# Altium integrated library Lattice ispXPGA.IntLib: 128 symbols (part 14 of 40)
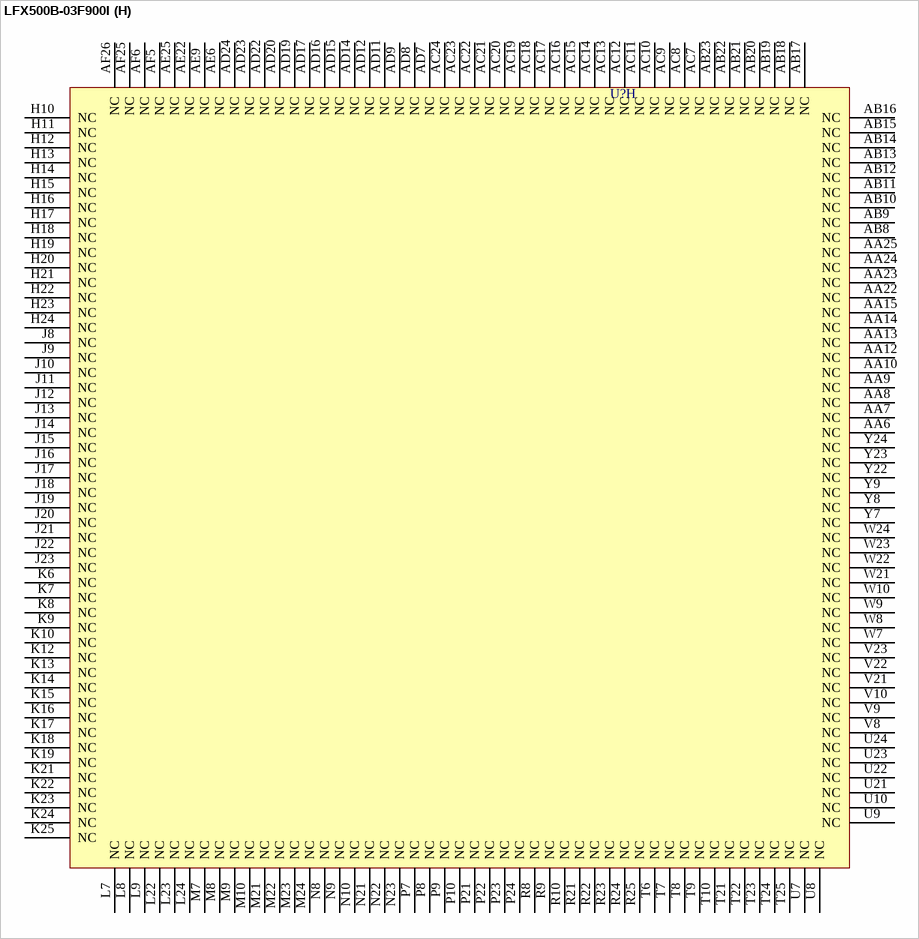
[diagram p412: symbol LFX500B-03F900I]

## LFX500B-03F900I
designator U?
LFX500 Non-Volatile Infinitely-Reconfigurable: 2.5/3.3V FPGA, 336 User I/Os, 900-Ball fpBGA, Speed Grade 3, Industrial Grade; Note: All GND pins must be electrically connected at the board level.; DoNotConnect: NC pins to any active signals, VCC or GND.; Published: 17-Dec-2003; LatestRevisionDate: 13-Apr-2006; LatestRevisionNote: IPC-7351 Footprint Added.; DatasheetVersion: xpga_07, Sep-2003; PackageVersion: pkg_32, Aug-2005; PackageReference: fpBGA900; Publisher: Altium Limited; PackageDescription: 900-Ball Fine Pitch Ball Grid Array (fpBGA900); Code_IPC: BGA100P30X30-900; ComponentLink1Description: Manufacturer Link; ComponentLink1URL: http://www.latticesemi.com/products/fpga/xpga/index.cfm; ComponentLink2Description: Datasheet; ComponentLink2URL: http://www.latticesemi.com/account/_download.cfm?AMID=5010; ComponentLink3Description: Lattice Login; ComponentLink3URL: http://www.latticesemi.com/account/login.cfm
footprint fpBGA900 (BGA, 900-Leads, Body 31x31mm, Pitch 1mm)
3D model LFX500-fpBGA900 (900-Ball Fine Pitch Ball Grid Array (fpBGA900))
part A pins: AA1 BK1_IO23, HSI2A_SINN/32N (io), AA2 BK1_IO22, HSI2A_SINP/32P (io), AD3 BK1_IO32/37P/HSI3 (io), AD4 BK1_IO33/37N (io), AD5 BK1_IO25/33N (io), AD6 BK1_IO24, VREF1/33P (io), AE1 BK1_IO35/38N (io), AE2 BK1_IO34/38P (io), AE3 BK1_IO28/35P (io), AE4 BK1_IO29/35N (io), AE5 BK1_IO36/39P (io), AF1 BK1_IO27, HSI2B_SOUTN/34N (io), AF2 BK1_IO26, HSI2B_SOUTP/34P (io), AF3 BK1_IO40/41P (io), AF4 BK1_IO37/39N (io), AG1 BK1_IO30, HSI2B_SINP/36P (io), AG2 BK1_IO31, HSI2B_SINN/36N (io), AG3 BK1_IO41/41N (io), AH1 BK1_IO38/40P (io), AH2 BK1_IO39/40N (io), D1 BK0_IO3, HSI0A_SOUTN/1N/HSI0 (io), D2 BK0_IO2, HSI0A_SOUTP/1P/HSI0 (io), E1 BK0_IO7, HSI0A_SINN/3N/HSI0 (io), E2 BK0_IO6, HSI0A_SINP/3P/HSI0 (io), E4 BK0_IO0/0P (io), F3 BK0_IO5/2N/HSI0 (io), F4 BK0_IO4/2P/HSI0 (io), F5 BK0_IO1/0N (io), G5 BK0_IO8/4P/HSI0 (io), G6 BK0_IO9, VREF0/4N/HSI0 (io), K1 BK0_IO10, HSI0B_SOUTP/5P/HSI0 (io), K2 BK0_IO11, HSI0B_SOUTN/5N/HSI0 (io), K4 BK0_IO13/6N/HSI0 (io), K5 BK0_IO12/6P/HSI0 (io), L1 BK0_IO14, HSI0B_SINP/7P/HSI0 (io), L2 BK0_IO15, HSI0B_SINN/7N/HSI0 (io), L3 BK0_IO20/10P/HSI1 (io), L4 BK0_IO21/10N/HSI1 (io), L5 BK0_IO17/8N/HSI0 (io), L6 BK0_IO16/8P/HSI0 (io), M1 BK0_IO18, HSI1A_SOUTP/9P/HSI1 (io), M2 BK0_IO19, HSI1A_SOUTN/9N/HSI1 (io), M3 BK0_IO25/12N/HSI1 (io), M4 BK0_IO24/12P/HSI1 (io), M5 BK0_IO23, HSI1A_SINN/11N/HSI1 (io), M6 BK0_IO22, HSI1A_SINP/11P/HSI1 (io), N1 BK0_IO26, HSI1B_SOUTP/13P/HSI1 (io), N2 BK0_IO27, HSI1B_SOUTN/13N/HSI1 (io), N3 BK0_IO32/16P/HSI1 (io), N4 BK0_IO33/16N/HSI1 (io), N6 BK0_IO29/14N/HSI1 (io), N7 BK0_IO28/14P/HSI1 (io), P1 BK0_IO30, HSI1B_SINP/15P/HSI1 (io), P2 BK0_IO31, HSI1B_SINN/15N/HSI1 (io), P3 BK0_IO36/18P (io), P4 BK0_IO39/19N (io), P5 BK0_IO35, PLL_RST1/17N (io), P6 BK0_IO38, PLL_RST0/19P (io), R1 BK0_IO40, CLK_OUT0/20P (io), R2 BK0_IO41, CLK_OUT1/20N (io), R6 BK0_IO37, PLL_FBK1/18N (io), R7 BK0_IO34, PLL_FBK0/17P (io), T1 BK1_IO1, CLK_OUT3/21N (io), T2 BK1_IO0, CLK_OUT2/21P (io), U1 BK1_IO3, SS_CLKOUT0N/22N (io), U2 BK1_IO2, SS_CLKOUT0P/22P (io), U3 BK1_IO4, PLL_FBK2/23P (io), U4 BK1_IO5, PLL_FBK3/23N (io), U5 BK1_IO12/27P (io), U6 BK1_IO13/27N (io), V1 BK1_IO10, SS_CLKIN0P/26P (io), V2 BK1_IO11, SS_CLKIN0N/26N (io), V3 BK1_IO7/24N (io), V4 BK1_IO6/24P (io), V6 BK1_IO20, PLL_RST2/31P (io), V7 BK1_IO21, PLL_RST3/31N (io), W1 BK1_IO8/25P (io), W2 BK1_IO9/25N (io), W3 BK1_IO14/28P (io), W4 BK1_IO15/28N (io), W5 BK1_IO16/29P (io), W6 BK1_IO17/29N (io), Y1 BK1_IO19, HSI2A_SOUTN/30N (io), Y2 BK1_IO18, HSI2A_SOUTP/30P (io)
part B pins: AD13 BK2_IO24/54P (io), AD18 BK3_IO17/71N (io), AE7 BK2_IO8/46P (io), AE8 BK2_IO21, VREF2/52N (io), AE13 BK2_IO25/54N (io), AE14 BK2_IO30/57P (io), AE15 BK2_IO36/60P (io), AE16 BK3_IO5/65N (io), AE17 BK3_IO11/68N (io), AE18 BK3_IO16/71P (io), AE23 BK3_IO27/76N (io), AE24 BK3_IO33/79N (io), AF7 BK2_IO9/46N (io), AF8 BK2_IO20/52P (io), AF9 BK2_IO18/51P (io), AF14 BK2_IO31/57N (io), AF15 BK2_IO37/60N (io), AF16 BK3_IO4/65P (io), AF17 BK3_IO10/68P (io), AF23 BK3_IO26/76P (io), AF24 BK3_IO32/79P (io), AG5 BK2_IO0/42P (io), AG6 BK2_IO4/44P (io), AG7 BK2_IO10/47P (io), AG8 BK2_IO14/49P (io), AG9 BK2_IO19/51N (io), AG13 BK2_IO28/56P (io), AG14 BK2_IO32/58P (io), AG15 BK2_IO38/61P (io), AG16 BK3_IO3/64N (io), AG17 BK3_IO9/67N (io), AG18 BK3_IO13/69N (io), AG23 BK3_IO22/74P (io), AG24 BK3_IO20, VREF3/73P (io), AG25 BK3_IO37/81N (io), AG26 BK3_IO40/83P (io), AH5 BK2_IO1/42N (io), AH6 BK2_IO5/44N (io), AH7 BK2_IO11/47N (io), AH8 BK2_IO15/49N (io), AH13 BK2_IO29/56N (io), AH14 BK2_IO33/58N (io), AH15 BK2_IO39/61N (io), AH16 BK3_IO2/64P (io), AH17 BK3_IO8/67P (io), AH18 BK3_IO12/69P (io), AH23 BK3_IO23/74N (io), AH24 BK3_IO21/73N (io), AH25 BK3_IO36/81P (io), AH26 BK3_IO41/83N (io), AJ4 BK2_IO2/43P (io), AJ5 BK2_IO6/45P (io), AJ6 BK2_IO12/48P (io), AJ7 BK2_IO16/50P (io), AJ12 BK2_IO23/53N (io), AJ13 BK2_IO27/55N (io), AJ14 BK2_IO34/59P (io), AJ15 BK2_IO40/62P (io), AJ16 BK3_IO1/63N (io), AJ17 BK3_IO7/66N (io), AJ18 BK3_IO14/70P (io), AJ19 BK3_IO18/72P (io), AJ23 BK3_IO24/75P (io), AJ24 BK3_IO28/77P (io), AJ25 BK3_IO30/78P (io), AJ26 BK3_IO35/80N (io), AJ27 BK3_IO39/82N (io), AK4 BK2_IO3/43N (io), AK5 BK2_IO7/45N (io), AK6 BK2_IO13/48N (io), AK7 BK2_IO17/50N (io), AK12 BK2_IO22/53P (io), AK13 BK2_IO26/55P (io), AK14 BK2_IO35/59N (io), AK15 BK2_IO41/62N (io), AK16 BK3_IO0/63P (io), AK17 BK3_IO6/66P (io), AK18 BK3_IO15/70N (io), AK19 BK3_IO19/72N (io), AK23 BK3_IO25/75N (io), AK24 BK3_IO29/77N (io), AK25 BK3_IO31/78N (io), AK26 BK3_IO34/80P (io), AK27 BK3_IO38/82P (io)
part C pins: AA29 BK4_IO23, HSI3B_SOUTN/95N (io), AA30 BK4_IO22, HSI3B_SOUTP/95P (io), AB29 BK4_IO19, HSI3B_SINN/93N (io), AB30 BK4_IO18, HSI3B_SINP/93P (io), AC25 BK4_IO8/88P/HSI3 (io), AC26 BK4_IO9/88N/HSI3 (io), AD25 BK4_IO12/90P/HSI3 (io), AD26 BK4_IO13/90N/HSI3 (io), AD27 BK4_IO17, VREF4/92N/HSI3 (io), AD28 BK4_IO16/92P/HSI3 (io), AE26 BK4_IO3/85N/HSI3 (io), AE27 BK4_IO4/86P/HSI3 (io), AE28 BK4_IO5/86N/HSI3 (io), AF27 BK4_IO1/84N (io), AF28 BK4_IO2/85P/HSI3 (io), AF29 BK4_IO6/87P/HSI3 (io), AF30 BK4_IO7/87N/HSI3 (io), AG28 BK4_IO0/84P (io), AG29 BK4_IO14, HSI3A_SOUTP/91P/HSI3 (io), AG30 BK4_IO15, HSI3A_SOUTN/91N/HSI3 (io), AH29 BK4_IO11, HSI3A_SINN/89N/HSI3 (io), AH30 BK4_IO10, HSI3A_SINP/89P/HSI3 (io), C29 BK5_IO39, HSI5B_SOUTN/124N/HSI5 (io), C30 BK5_IO38, HSI5B_SOUTP/124P/HSI5 (io), D28 BK5_IO41/125N (io), D29 BK5_IO35, HSI5B_SINN/122N/HSI5 (io), D30 BK5_IO34, HSI5B_SINP/122P/HSI5 (io), E27 BK5_IO40/125P (io), F27 BK5_IO37/123N/HSI5 (io), F28 BK5_IO36/123P/HSI5 (io), H25 BK5_IO32, VREF5/121P/HSI5 (io), H26 BK5_IO33/121N/HSI5 (io), J29 BK5_IO31, HSI5A_SOUTN/120N/HSI5 (io), J30 BK5_IO30, HSI5A_SOUTP/120P/HSI5 (io), K26 BK5_IO29/119N/HSI5 (io), K27 BK5_IO28/119P/HSI5 (io), K29 BK5_IO23, HSI4B_SOUTN/116N/HSI4 (io), K30 BK5_IO22, HSI4B_SOUTP/116P/HSI4 (io), L25 BK5_IO27, HSI5A_SINN/118N/HSI5 (io), L26 BK5_IO26, HSI5A_SINP/118P/HSI5 (io), L27 BK5_IO25/117N/HSI5 (io), L28 BK5_IO24/117P/HSI5 (io), L29 BK5_IO19, HSI4B_SINN/114N/HSI4 (io), L30 BK5_IO18, HSI4B_SINP/114P/HSI4 (io), M25 BK5_IO21/115N/HSI4 (io), M26 BK5_IO20/115P/HSI4 (io), M27 BK5_IO17/113N/HSI4 (io), M28 BK5_IO16/113P/HSI4 (io), M29 BK5_IO14, HSI4A_SOUTP/112P/HSI4 (io), M30 BK5_IO15, HSI4A_SOUTN/112N/HSI4 (io), N24 BK5_IO13/111N/HSI4 (io), N25 BK5_IO12/111P/HSI4 (io), N27 BK5_IO8/109P/HSI4 (io), N28 BK5_IO9/109N/HSI4 (io), N29 BK5_IO10, HSI4A_SINP/110P/HSI4 (io), N30 BK5_IO11, HSI4A_SINN/110N/HSI4 (io), P25 BK5_IO3, PLL_RST7/106N (io), P26 BK5_IO6, PLL_RST6/108P (io), P27 BK5_IO2/106P (io), P28 BK5_IO5/107N (io), P29 BK5_IO7, PLL_FBK7/108N (io), P30 BK5_IO4, PLL_FBK6/107P (io), R29 BK5_IO0, CLK_OUT6/105P (io), R30 BK5_IO1, CLK_OUT7/105N (io), T29 BK4_IO41, CLK_OUT5/104N (io), T30 BK4_IO40, CLK_OUT4/104P (io), U25 BK4_IO28/98P (io), U26 BK4_IO29/98N (io), U27 BK4_IO37, PLL_FBK5/102N (io), U28 BK4_IO36, PLL_FBK4/102P (io), U29 BK4_IO38, SS_CLKOUT1P/103P (io), U30 BK4_IO39, SS_CLKOUT1N/103N (io), V24 BK4_IO26/97P (io), V25 BK4_IO27/97N (io), V27 BK4_IO20, PLL_RST4/94P (io), V28 BK4_IO21, PLL_RST5/94N (io), V29 BK4_IO30, SS_CLKIN1P/99P (io), V30 BK4_IO31, SS_CLKIN1N/99N (io), W27 BK4_IO24/96P (io), W28 BK4_IO25/96N (io), W29 BK4_IO34/101P (io), W30 BK4_IO35/101N (io), Y29 BK4_IO32/100P (io), Y30 BK4_IO33/100N (io)
part D pins: A4 BK7_IO41/167N (io), A5 BK7_IO34/164P (io), A6 BK7_IO21/157N (io), A7 BK7_IO24/159P (io), A12 BK7_IO18/156P (io), A13 BK7_IO15/154N (io), A14 BK7_IO6/150P (io), A15 BK7_IO0/147P (io), A16 BK6_IO41/146N (io), A17 BK6_IO31, DATA0/141N (io), A18 BK6_IO32/142P (io), A23 BK6_IO16/134P (io), A24 BK6_IO12/132P (io), A25 BK6_IO10/131P (io), A26 BK6_IO7/129N (io), A27 BK6_IO3/127N (io), B4 BK7_IO40/167P (io), B5 BK7_IO35/164N (io), B6 BK7_IO20, VREF7/157P (io), B7 BK7_IO25/159N (io), B12 BK7_IO19/156N (io), B13 BK7_IO14/154P (io), B14 BK7_IO7/150N (io), B15 BK7_IO1/147N (io), B16 BK6_IO40/146P (io), B17 BK6_IO30, DATA1/141P (io), B18 BK6_IO33/142N (io), B23 BK6_IO17/134N (io), B24 BK6_IO13/132N (io), B25 BK6_IO11/131N (io), B26 BK6_IO6/129P (io), B27 BK6_IO2/127P (io), C5 BK7_IO39/166N (io), C6 BK7_IO36/165P (io), C7 BK7_IO30/162P (io), C8 BK7_IO26/160P (io), C13 BK7_IO12/153P (io), C14 BK7_IO8/151P (io), C15 BK7_IO2/148P (io), C16 BK6_IO39/145N (io), C17 BK6_IO29/140N (io), C18 BK6_IO35/143N (io), C24 BK6_IO20/136P (io), C25 BK6_IO5, READ/128N (io), C26 BK6_IO1, CCLK/126N (io), D5 BK7_IO38/166P (io), D6 BK7_IO37/165N (io), D7 BK7_IO31/162N (io), D8 BK7_IO27/160N (io), D9 BK7_IO22/158P (io), D13 BK7_IO13/153N (io), D14 BK7_IO9/151N (io), D15 BK7_IO3/148N (io), D16 BK6_IO38/145P (io), D17 BK6_IO28/140P (io), D18 BK6_IO34/143P (io), D24 BK6_IO21, VREF6/136N (io), D25 BK6_IO4, CSb/128P (io), D26 BK6_IO0, INITb/126P (io), E7 BK7_IO32/163P (io), E8 BK7_IO28/161P (io), E9 BK7_IO23/158N (io), E14 BK7_IO10/152P (io), E15 BK7_IO4/149P (io), E16 BK6_IO37/144N (io), E17 BK6_IO27, DATA2/139N (io), E19 BK6_IO23, DATA4/137N (io), E20 BK6_IO19, DATA6/135N (io), E23 BK6_IO15/133N (io), E24 BK6_IO9/130N (io), F7 BK7_IO33/163N (io), F8 BK7_IO29/161N (io), F13 BK7_IO16/155P (io), F14 BK7_IO11/152N (io), F15 BK7_IO5/149N (io), F16 BK6_IO36/144P (io), F17 BK6_IO26, DATA3/139P (io), F18 BK6_IO25/138N (io), F19 BK6_IO22, DATA5/137P (io), F20 BK6_IO18, DATA7/135P (io), F23 BK6_IO14/133P (io), F24 BK6_IO8/130P (io), G13 BK7_IO17/155N (io), G18 BK6_IO24/138P (io)
part E pins: A3 TDO (out), A28 PROGRAMb (in), AH4 TCK (in), AH27 DXN (out), AJ3 TMS (in), AJ28 DXP (out), AK3 TOE (in), AK28 GSR (in), B28 DONE (io), C4 TDI (in), C27 CFG0 (in), R3 GCLK0/LVDS Pair0P (in), R4 GCLK1/LVDS Pair0N (in), R26 GCLK7/LVDS Pair3N (in), R27 GCLK6/LVDS Pair3P (in), T4 GCLK2/LVDS Pair1P (in), T5 GCLK3/LVDS Pair1N (in), T27 GCLK5/LVDS Pair2N (in), T28 GCLK4/LVDS Pair2P (in)
part F pins: A1 GND (power), A2 GND (power), A29 GND (power), A30 GND (power), AA3 VCCO1 (power), AA11 VCCO2 (power), AA20 VCCO3 (power), AA28 VCCO4 (power), AB3 GND (power), AB28 GND (power), AF13 VCCO2 (power), AF18 VCCO3 (power), AG4 GND (power), AG27 GND (power), AH3 GND (power), AH9 GND (power), AH10 VCCO2 (power), AH21 VCCO3 (power), AH22 GND (power), AH28 GND (power), AJ1 GND (power), AJ2 GND (power), AJ29 GND (power), AJ30 GND (power), AK1 GND (power), AK2 GND (power), AK29 GND (power), AK30 GND (power), B1 GND (power), B2 GND (power), B3 VCCJ (power), B29 GND (power), B30 GND (power), C3 GND (power), C9 GND (power), C10 VCCO7 (power), C21 VCCO6 (power), C22 GND (power), C28 GND (power), D4 GND (power), D27 GND (power), E13 VCCO7 (power), E18 VCCO6 (power), J3 GND (power), J28 GND (power), K3 VCCO0 (power), K11 VCCO7 (power), K20 VCCO6 (power), K28 VCCO5 (power), L10 VCCO0 (power), L11 VCC (power), L12 VCCO7 (power), L13 VCCO7 (power), L14 VCCO7 (power), L15 VCCO7 (power), L16 VCCO6 (power), L17 VCCO6 (power), L18 VCCO6 (power), L19 VCCO6 (power), L20 VCC (power), L21 VCCO5 (power), M11 VCCO0 (power), M12 VCC (power), M13 VCC (power), M14 VCC (power), M15 VCCO7 (power), M16 VCCO6 (power), M17 VCC (power), M18 VCC (power), M19 VCC (power), M20 VCCO5 (power), N5 VCCO0 (power), N11 VCCO0 (power), N12 VCC (power), N13 GND (power), N14 GND (power), N15 GND (power), N16 GND (power), N17 GND (power), N18 GND (power), N19 VCC (power), N20 VCCO5 (power), N26 VCCO5 (power), P11 VCCO0 (power), P12 VCC (power), P13 GND (power), P14 GND (power), P15 GND (power), P16 GND (power), P17 GND (power), P18 GND (power), P19 VCC (power), P20 VCCO5 (power), R5 VCCP0 (power), R11 VCCO0 (power), R12 VCCO0 (power), R13 GND (power), R14 GND (power), R15 GND (power), R16 GND (power), R17 GND (power), R18 GND (power), R19 VCCO5 (power), R20 VCCO5 (power), R28 GNDP1 (power), T3 GNDP0 (power), T11 VCCO1 (power), T12 VCCO1 (power), T13 GND (power), T14 GND (power), T15 GND (power), T16 GND (power), T17 GND (power), T18 GND (power), T19 VCCO4 (power), T20 VCCO4 (power), T26 VCCP1 (power), U11 VCCO1 (power), U12 VCC (power), U13 GND (power), U14 GND (power), U15 GND (power), U16 GND (power), U17 GND (power), U18 GND (power), U19 VCC (power), U20 VCCO4 (power), V5 VCCO1 (power), V11 VCCO1 (power), V12 VCC (power), V13 GND (power), V14 GND (power), V15 GND (power), V16 GND (power), V17 GND (power), V18 GND (power), V19 VCC (power), V20 VCCO4 (power), V26 VCCO4 (power), W11 VCCO1 (power), W12 VCC (power), W13 VCC (power), W14 VCC (power), W15 VCCO2 (power), W16 VCCO3 (power), W17 VCC (power), W18 VCC (power), W19 VCC (power), W20 VCCO4 (power), Y10 VCCO1 (power), Y11 VCC (power), Y12 VCCO2 (power), Y13 VCCO2 (power), Y14 VCCO2 (power), Y15 VCCO2 (power), Y16 VCCO3 (power), Y17 VCCO3 (power), Y18 VCCO3 (power), Y19 VCCO3 (power), Y20 VCC (power), Y21 VCCO4 (power)
part G pins: A8 NC, A9 NC, A10 NC, A11 NC, A19 NC, A20 NC, A21 NC, A22 NC, AA4 NC, AA5 NC, AA16 NC, AA17 NC, AA18 NC, AA19 NC, AA21 NC, AA26 NC, AA27 NC, AB1 NC, AB2 NC, AB4 NC, AB5 NC, AB6 NC, AB7 NC, AB24 NC, AB25 NC, AB26 NC, AB27 NC, AC1 NC, AC2 NC, AC3 NC, AC4 NC, AC5 NC, AC6 NC, AC27 NC, AC28 NC, AC29 NC, AC30 NC, AD1 NC, AD2 NC, AD10 NC, AD21 NC, AD29 NC, AD30 NC, AE10 NC, AE11 NC, AE12 NC, AE19 NC, AE20 NC, AE21 NC, AE29 NC, AE30 NC, AF10 NC, AF11 NC, AF12 NC, AF19 NC, AF20 NC, AF21 NC, AF22 NC, AG10 NC, AG11 NC, AG12 NC, AG19 NC, AG20 NC, AG21 NC, AG22 NC, AH11 NC, AH12 NC, AH19 NC, AH20 NC, AJ8 NC, AJ9 NC, AJ10 NC, AJ11 NC, AJ20 NC, AJ21 NC, AJ22 NC, AK8 NC, AK9 NC, AK10 NC, AK11 NC, AK20 NC, AK21 NC, AK22 NC, B8 NC, B9 NC, B10 NC, B11 NC, B19 NC, B20 NC, B21 NC, B22 NC, C1 NC, C2 NC, C11 NC, C12 NC, C19 NC, C20 NC, C23 NC, D3 NC, D10 NC, D11 NC, D12 NC, D19 NC, D20 NC, D21 NC, D22 NC, D23 NC, E3 NC, E5 NC, E6 NC, E10 NC, E11 NC, E12 NC, E21 NC, E22 NC, E25 NC, E26 NC, E28 NC, E29 NC, E30 NC, F1 NC, F2 NC, F6 NC, F9 NC, F10 NC, F11 NC, F12 NC, F21 NC, F22 NC, F25 NC, F26 NC, F29 NC, F30 NC, G1 NC, G2 NC, G3 NC, G4 NC, G7 NC, G8 NC, G9 NC, G10 NC, G11 NC, G12 NC, G14 NC, G15 NC, G16 NC, G17 NC, G19 NC, G20 NC, G21 NC, G22 NC, G23 NC, G24 NC, G25 NC, G26 NC, G27 NC, G28 NC, G29 NC, G30 NC, H1 NC, H2 NC, H3 NC, H4 NC, H5 NC, H6 NC, H7 NC, H8 NC, H9 NC, H27 NC, H28 NC, H29 NC, H30 NC, J1 NC, J2 NC, J4 NC, J5 NC, J6 NC, J7 NC, J24 NC, J25 NC, J26 NC, J27 NC, W25 NC, W26 NC, Y3 NC, Y4 NC, Y5 NC, Y6 NC, Y25 NC, Y26 NC, Y27 NC, Y28 NC
part H pins: AA6 NC, AA7 NC, AA8 NC, AA9 NC, AA10 NC, AA12 NC, AA13 NC, AA14 NC, AA15 NC, AA22 NC, AA23 NC, AA24 NC, AA25 NC, AB8 NC, AB9 NC, AB10 NC, AB11 NC, AB12 NC, AB13 NC, AB14 NC, AB15 NC, AB16 NC, AB17 NC, AB18 NC, AB19 NC, AB20 NC, AB21 NC, AB22 NC, AB23 NC, AC7 NC, AC8 NC, AC9 NC, AC10 NC, AC11 NC, AC12 NC, AC13 NC, AC14 NC, AC15 NC, AC16 NC, AC17 NC, AC18 NC, AC19 NC, AC20 NC, AC21 NC, AC22 NC, AC23 NC, AC24 NC, AD7 NC, AD8 NC, AD9 NC, AD11 NC, AD12 NC, AD14 NC, AD15 NC, AD16 NC, AD17 NC, AD19 NC, AD20 NC, AD22 NC, AD23 NC, AD24 NC, AE6 NC, AE9 NC, AE22 NC, AE25 NC, AF5 NC, AF6 NC, AF25 NC, AF26 NC, H10 NC, H11 NC, H12 NC, H13 NC, H14 NC, H15 NC, H16 NC, H17 NC, H18 NC, H19 NC, H20 NC, H21 NC, H22 NC, H23 NC, H24 NC, J8 NC, J9 NC, J10 NC, J11 NC, J12 NC, J13 NC, J14 NC, J15 NC, J16 NC, J17 NC, J18 NC, J19 NC, J20 NC, J21 NC, J22 NC, J23 NC, K6 NC, K7 NC, K8 NC, K9 NC, K10 NC, K12 NC, K13 NC, K14 NC, K15 NC, K16 NC, K17 NC, K18 NC, K19 NC, K21 NC, K22 NC, K23 NC, K24 NC, K25 NC, L7 NC, L8 NC, L9 NC, L22 NC, L23 NC, L24 NC, M7 NC, M8 NC, M9 NC, M10 NC, M21 NC, M22 NC, M23 NC, M24 NC, N8 NC, N9 NC, N10 NC, N21 NC, N22 NC, N23 NC, P7 NC, P8 NC, P9 NC, P10 NC, P21 NC, P22 NC, P23 NC, P24 NC, R8 NC, R9 NC, R10 NC, R21 NC, R22 NC, R23 NC, R24 NC, R25 NC, T6 NC, T7 NC, T8 NC, T9 NC, T10 NC, T21 NC, T22 NC, T23 NC, T24 NC, T25 NC, U7 NC, U8 NC, U9 NC, U10 NC, U21 NC, U22 NC, U23 NC, U24 NC, V8 NC, V9 NC, V10 NC, V21 NC, V22 NC, V23 NC, W7 NC, W8 NC, W9 NC, W10 NC, W21 NC, W22 NC, W23 NC, W24 NC, Y7 NC, Y8 NC, Y9 NC, Y22 NC, Y23 NC, Y24 NC
part A text: BANK 1; BANK 0
part B text: BANK 3; BANK 2
part C text: BANK 5; BANK 4
part D text: BANK 7; BANK 6

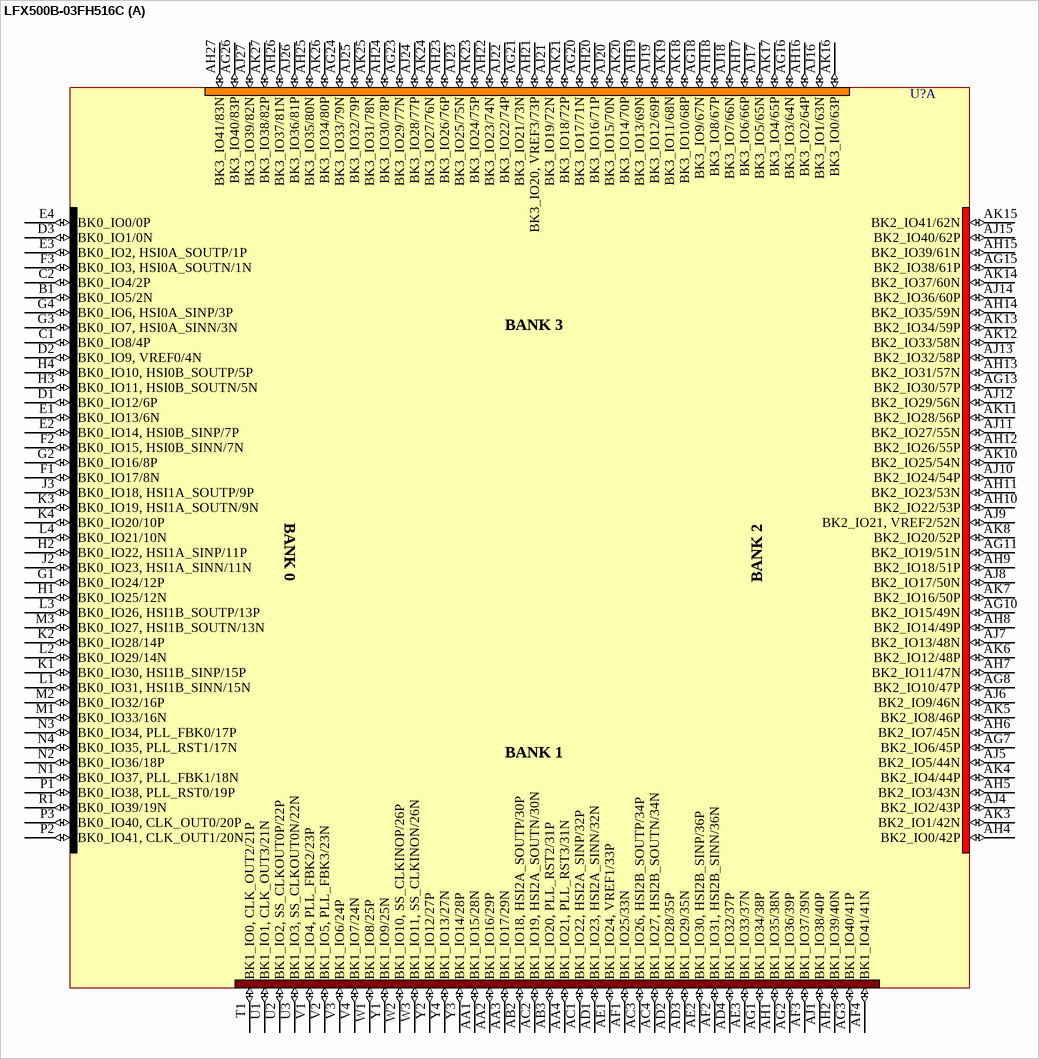
[diagram p146: symbol LFX500B-03FH516C]

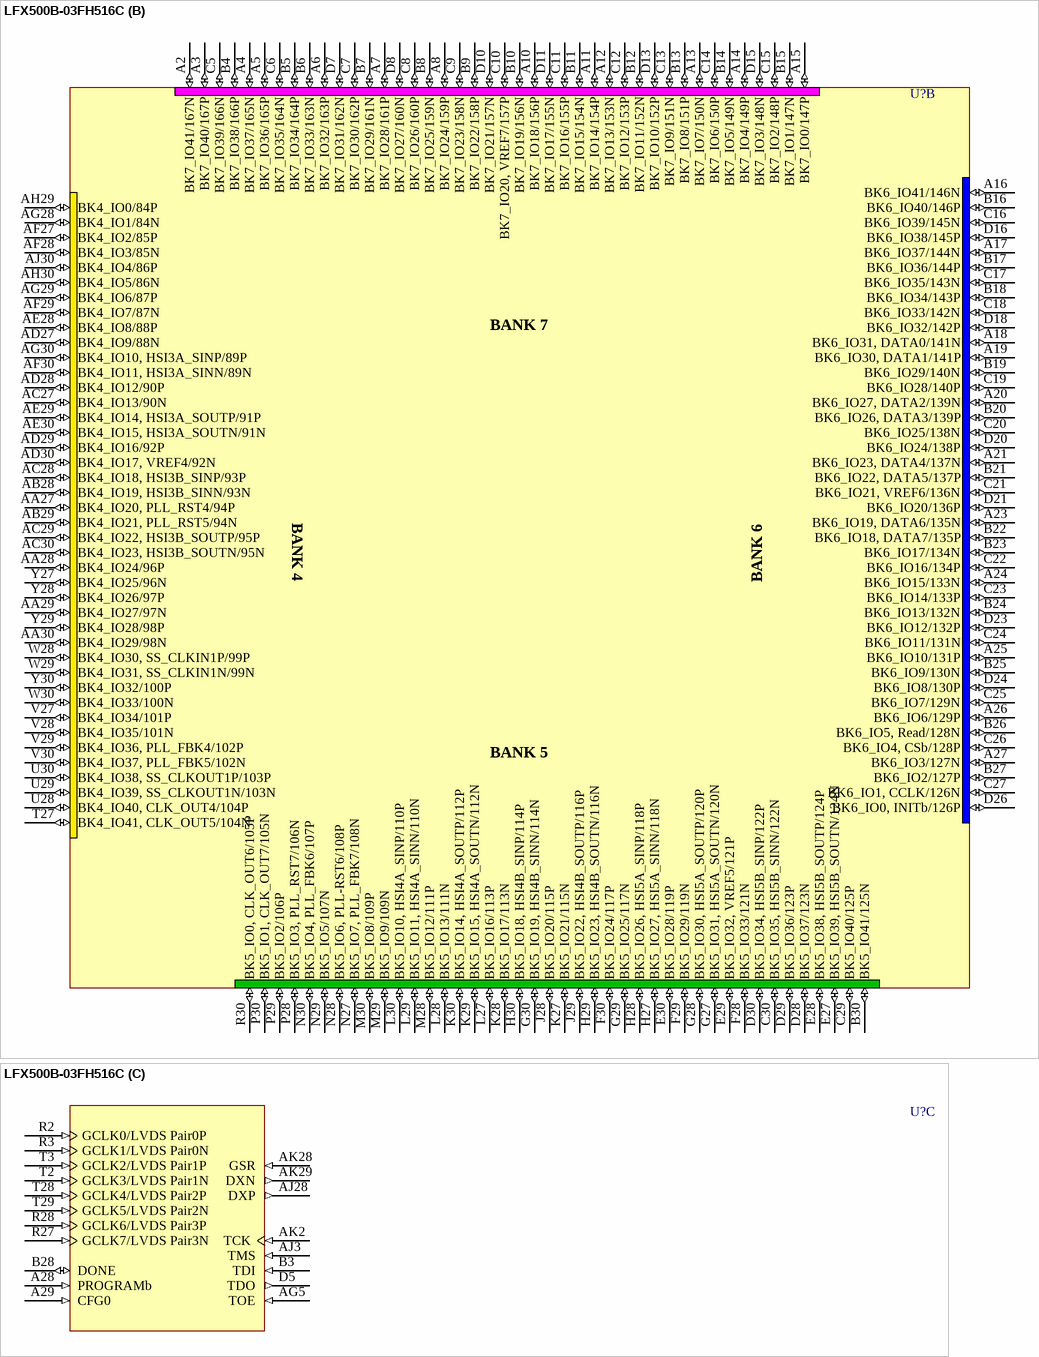
[diagram p147: symbol LFX500B-03FH516C]

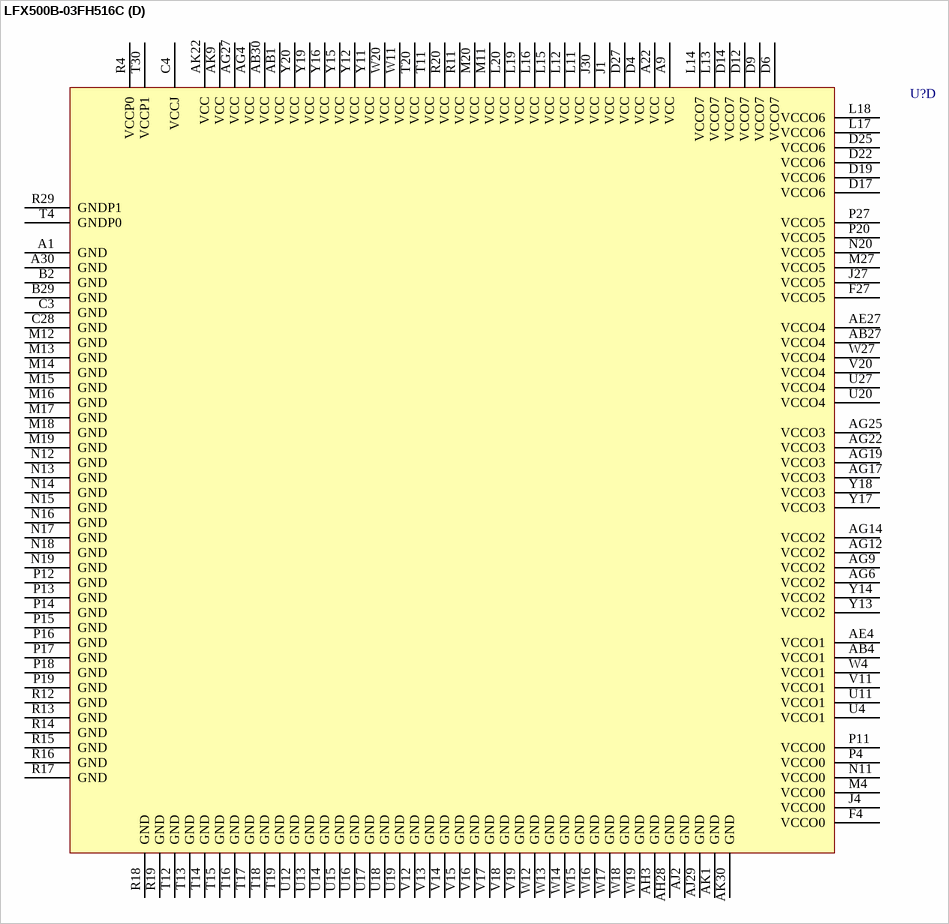
[diagram p148: symbol LFX500B-03FH516C]

## LFX500B-03FH516C
designator U?
LFX500 Non-Volatile Infinitely-Reconfigurable: 2.5/3.3V FPGA, 336 User I/Os, 516-Ball fpBGA, Speed Grade 3, Commercial Grade; Note: All GND pins must be electrically connected at the board level.; DoNotConnect: NC pins to any active signals, VCC or GND.; Published: 17-Dec-2003; LatestRevisionDate: 13-Apr-2006; LatestRevisionNote: IPC-7351 Footprint Added.; DatasheetVersion: xpga_09, Jul-2004; PackageVersion: pkg_32, Aug-2005; PackageReference: fpBGA516; Publisher: Altium Limited; PackageDescription: 516-Ball Fine Pitch Ball Grid Array (fpBGA516); ComponentLink1Description: Manufacturer Link; ComponentLink1URL: http://www.latticesemi.com/products/fpga/xpga/index.cfm; ComponentLink2Description: Datasheet; ComponentLink2URL: http://www.latticesemi.com/account/_download.cfm?AMID=5010; ComponentLink3Description: Lattice Login; ComponentLink3URL: http://www.latticesemi.com/account/login.cfm
footprint fpBGA516 (BGA, 516-Leads, Body 31x31mm, Pitch 1mm)
3D model LFX500-fpBGA516 (516-Ball Fine Pitch Ball Grid Array (fpBGA516))
part A pins: AA1 BK1_IO15/28N (io), AA2 BK1_IO16/29P (io), AA3 BK1_IO17/29N (io), AA4 BK1_IO21, PLL_RST3/31N (io), AB2 BK1_IO18, HSI2A_SOUTP/30P (io), AB3 BK1_IO20, PLL_RST2/31P (io), AC1 BK1_IO22, HSI2A_SINP/32P (io), AC2 BK1_IO19, HSI2A_SOUTN/30N (io), AC3 BK1_IO26, HSI2B_SOUTP/34P (io), AC4 BK1_IO27, HSI2B_SOUTN/34N (io), AD1 BK1_IO23, HSI2A_SINN/32N (io), AD2 BK1_IO28/35P (io), AD3 BK1_IO29/35N (io), AD4 BK1_IO32/37P (io), AE1 BK1_IO24, VREF1/33P (io), AE2 BK1_IO30, HSI2B_SINP/36P (io), AE3 BK1_IO33/37N (io), AF1 BK1_IO25/33N (io), AF2 BK1_IO31, HSI2B_SINN/36N (io), AF3 BK1_IO37/39N (io), AF4 BK1_IO41/41N (io), AG1 BK1_IO34/38P (io), AG2 BK1_IO36/39P (io), AG3 BK1_IO40/41P (io), AG7 BK2_IO6/45P (io), AG8 BK2_IO10/47P (io), AG10 BK2_IO15/49N (io), AG11 BK2_IO19/51N (io), AG13 BK2_IO30/57P (io), AG15 BK2_IO38/61P (io), AG16 BK3_IO3/64N (io), AG18 BK3_IO9/67N (io), AG20 BK3_IO17/71N (io), AG21 BK3_IO21/73N (io), AG23 BK3_IO29/77N (io), AG24 BK3_IO33/79N (io), AG26 BK3_IO40/83P (io), AH1 BK1_IO35/38N (io), AH2 BK1_IO39/40N (io), AH4 BK2_IO0/42P (io), AH5 BK2_IO3/43N (io), AH6 BK2_IO7/45N (io), AH7 BK2_IO11/47N (io), AH8 BK2_IO14/49P (io), AH9 BK2_IO18/51P (io), AH10 BK2_IO22/53P (io), AH11 BK2_IO23/53N (io), AH12 BK2_IO26/55P (io), AH13 BK2_IO31/57N (io), AH14 BK2_IO35/59N (io), AH15 BK2_IO39/61N (io), AH16 BK3_IO2/64P (io), AH17 BK3_IO6/66P (io), AH18 BK3_IO8/67P (io), AH19 BK3_IO13/69N (io), AH20 BK3_IO16/71P (io), AH21 BK3_IO20, VREF3/73P (io), AH22 BK3_IO23/74N (io), AH23 BK3_IO26/76P (io), AH24 BK3_IO30/78P (io), AH25 BK3_IO35/80N (io), AH26 BK3_IO37/81N (io), AH27 BK3_IO41/83N (io), AJ1 BK1_IO38/40P (io), AJ4 BK2_IO2/43P (io), AJ5 BK2_IO5/44N (io), AJ6 BK2_IO9/46N (io), AJ7 BK2_IO13/48N (io), AJ8 BK2_IO17/50N (io), AJ9 BK2_IO21, VREF2/52N (io), AJ10 BK2_IO24/54P (io), AJ11 BK2_IO27/55N (io), AJ12 BK2_IO29/56N (io), AJ13 BK2_IO32/58P (io), AJ14 BK2_IO36/60P (io), AJ15 BK2_IO40/62P (io), AJ16 BK3_IO1/63N (io), AJ17 BK3_IO5/65N (io), AJ18 BK3_IO7/66N (io), AJ19 BK3_IO12/69P (io), AJ20 BK3_IO15/70N (io), AJ21 BK3_IO19/72N (io), AJ22 BK3_IO22/74P (io), AJ23 BK3_IO25/75N (io), AJ24 BK3_IO28/77P (io), AJ25 BK3_IO32/79P (io), AJ26 BK3_IO36/81P (io), AJ27 BK3_IO39/82N (io), AK3 BK2_IO1/42N (io), AK4 BK2_IO4/44P (io), AK5 BK2_IO8/46P (io), AK6 BK2_IO12/48P (io), AK7 BK2_IO16/50P (io), AK8 BK2_IO20/52P (io), AK10 BK2_IO25/54N (io), AK11 BK2_IO28/56P (io), AK12 BK2_IO33/58N (io), AK13 BK2_IO34/59P (io), AK14 BK2_IO37/60N (io), AK15 BK2_IO41/62N (io), AK16 BK3_IO0/63P (io), AK17 BK3_IO4/65P (io), AK18 BK3_IO10/68P (io), AK19 BK3_IO11/68N (io), AK20 BK3_IO14/70P (io), AK21 BK3_IO18/72P (io), AK23 BK3_IO24/75P (io), AK24 BK3_IO27/76N (io), AK25 BK3_IO31/78N (io), AK26 BK3_IO34/80P (io), AK27 BK3_IO38/82P (io), B1 BK0_IO5/2N (io), C1 BK0_IO8/4P (io), C2 BK0_IO4/2P (io), D1 BK0_IO12/6P (io), D2 BK0_IO9, VREF0/4N (io), D3 BK0_IO1/0N (io), E1 BK0_IO13/6N (io), E2 BK0_IO14, HSI0B_SINP/7P (io), E3 BK0_IO2, HSI0A_SOUTP/1P (io), E4 BK0_IO0/0P (io), F1 BK0_IO17/8N (io), F2 BK0_IO15, HSI0B_SINN/7N (io), F3 BK0_IO3, HSI0A_SOUTN/1N (io), G1 BK0_IO24/12P (io), G2 BK0_IO16/8P (io), G3 BK0_IO7, HSI0A_SINN/3N (io), G4 BK0_IO6, HSI0A_SINP/3P (io), H1 BK0_IO25/12N (io), H2 BK0_IO22, HSI1A_SINP/11P (io), H3 BK0_IO11, HSI0B_SOUTN/5N (io), H4 BK0_IO10, HSI0B_SOUTP/5P (io), J2 BK0_IO23, HSI1A_SINN/11N (io), J3 BK0_IO18, HSI1A_SOUTP/9P (io), K1 BK0_IO30, HSI1B_SINP/15P (io), K2 BK0_IO28/14P (io), K3 BK0_IO19, HSI1A_SOUTN/9N (io), K4 BK0_IO20/10P (io), L1 BK0_IO31, HSI1B_SINN/15N (io), L2 BK0_IO29/14N (io), L3 BK0_IO26, HSI1B_SOUTP/13P (io), L4 BK0_IO21/10N (io), M1 BK0_IO33/16N (io), M2 BK0_IO32/16P (io), M3 BK0_IO27, HSI1B_SOUTN/13N (io), N1 BK0_IO37, PLL_FBK1/18N (io), N2 BK0_IO36/18P (io), N3 BK0_IO34, PLL_FBK0/17P (io), N4 BK0_IO35, PLL_RST1/17N (io), P1 BK0_IO38, PLL_RST0/19P (io), P2 BK0_IO41, CLK_OUT1/20N (io), P3 BK0_IO40, CLK_OUT0/20P (io), R1 BK0_IO39/19N (io), T1 BK1_IO0, CLK_OUT2/21P (io), U1 BK1_IO1, CLK_OUT3/21N (io), U2 BK1_IO2, SS_CLKOUT0P/22P (io), U3 BK1_IO3, SS_CLKOUT0N/22N (io), V1 BK1_IO4, PLL_FBK2/23P (io), V2 BK1_IO5, PLL_FBK3/23N (io), V3 BK1_IO6/24P (io), V4 BK1_IO7/24N (io), W1 BK1_IO8/25P (io), W2 BK1_IO10, SS_CLKINOP/26P (io), W3 BK1_IO11, SS_CLKINON/26N (io), Y1 BK1_IO9/25N (io), Y2 BK1_IO12/27P (io), Y3 BK1_IO14/28P (io), Y4 BK1_IO13/27N (io)
part B pins: A2 BK7_IO41/167N (io), A3 BK7_IO40/167P (io), A4 BK7_IO37/165N (io), A5 BK7_IO36/165P (io), A6 BK7_IO32/163P (io), A7 BK7_IO28/161P (io), A8 BK7_IO24/159P (io), A10 BK7_IO18/156P (io), A11 BK7_IO14/154P (io), A12 BK7_IO13/153N (io), A13 BK7_IO7/150N (io), A14 BK7_IO4/149P (io), A15 BK7_IO0/147P (io), A16 BK6_IO41/146N (io), A17 BK6_IO37/144N (io), A18 BK6_IO31, DATA0/141N (io), A19 BK6_IO30, DATA1/141P (io), A20 BK6_IO27, DATA2/139N (io), A21 BK6_IO23, DATA4/137N (io), A23 BK6_IO19, DATA6/135N (io), A24 BK6_IO15/133N (io), A25 BK6_IO10/131P (io), A26 BK6_IO6/129P (io), A27 BK6_IO3/127N (io), AA27 BK4_IO20, PLL_RST4/94P (io), AA28 BK4_IO24/96P (io), AA29 BK4_IO27/97N (io), AA30 BK4_IO29/98N (io), AB28 BK4_IO19, HSI3B_SINN/93N (io), AB29 BK4_IO21, PLL_RST5/94N (io), AC27 BK4_IO13/90N (io), AC28 BK4_IO18, HSI3B_SINP/93P (io), AC29 BK4_IO22, HSI3B_SOUTP/95P (io), AC30 BK4_IO23, HSI3B_SOUTN/95N (io), AD27 BK4_IO9/88N (io), AD28 BK4_IO12/90P (io), AD29 BK4_IO16/92P (io), AD30 BK4_IO17, VREF4/92N (io), AE28 BK4_IO8/88P (io), AE29 BK4_IO14, HSI3A_SOUTP/91P (io), AE30 BK4_IO15, HSI3A_SOUTN/91N (io), AF27 BK4_IO2/85P (io), AF28 BK4_IO3/85N (io), AF29 BK4_IO7/87N (io), AF30 BK4_IO11, HSI3A_SINN/89N (io), AG28 BK4_IO1/84N (io), AG29 BK4_IO6/87P (io), AG30 BK4_IO10, HSI3A_SINP/89P (io), AH29 BK4_IO0/84P (io), AH30 BK4_IO5/86N (io), AJ30 BK4_IO4/86P (io), B4 BK7_IO38/166P (io), B5 BK7_IO34/164P (io), B6 BK7_IO33/163N (io), B7 BK7_IO29/161N (io), B8 BK7_IO25/159N (io), B9 BK7_IO22/158P (io), B10 BK7_IO19/156N (io), B11 BK7_IO15/154N (io), B12 BK7_IO11/152N (io), B13 BK7_IO8/151P (io), B14 BK7_IO5/149N (io), B15 BK7_IO1/147N (io), B16 BK6_IO40/146P (io), B17 BK6_IO36/144P (io), B18 BK6_IO34/143P (io), B19 BK6_IO29/140N (io), B20 BK6_IO26, DATA3/139P (io), B21 BK6_IO22, DATA5/137P (io), B22 BK6_IO18, DATA7/135P (io), B23 BK6_IO17/134N (io), B24 BK6_IO13/132N (io), B25 BK6_IO9/130N (io), B26 BK6_IO5, Read/128N (io), B27 BK6_IO2/127P (io), B30 BK5_IO41/125N (io), C5 BK7_IO39/166N (io), C6 BK7_IO35/164N (io), C7 BK7_IO30/162P (io), C8 BK7_IO26/160P (io), C9 BK7_IO23/158N (io), C10 BK7_IO20, VREF7/157P (io), C11 BK7_IO16/155P (io), C12 BK7_IO12/153P (io), C13 BK7_IO9/151N (io), C14 BK7_IO6/150P (io), C15 BK7_IO2/148P (io), C16 BK6_IO39/145N (io), C17 BK6_IO35/143N (io), C18 BK6_IO33/142N (io), C19 BK6_IO28/140P (io), C20 BK6_IO25/138N (io), C21 BK6_IO21, VREF6/136N (io), C22 BK6_IO16/134P (io), C23 BK6_IO14/133P (io), C24 BK6_IO11/131N (io), C25 BK6_IO7/129N (io), C26 BK6_IO4, CSb/128P (io), C27 BK6_IO1, CCLK/126N (io), C29 BK5_IO40/125P (io), C30 BK5_IO35, HSI5B_SINN/122N (io), D7 BK7_IO31/162N (io), D8 BK7_IO27/160N (io), D10 BK7_IO21/157N (io), D11 BK7_IO17/155N (io), D13 BK7_IO10/152P (io), D15 BK7_IO3/148N (io), D16 BK6_IO38/145P (io), D18 BK6_IO32/142P (io), D20 BK6_IO24/138P (io), D21 BK6_IO20/136P (io), D23 BK6_IO12/132P (io), D24 BK6_IO8/130P (io), D26 BK6_IO0, INITb/126P (io), D28 BK5_IO37/123N (io), D29 BK5_IO36/123P (io), D30 BK5_IO34, HSI5B_SINP/122P (io), E27 BK5_IO39, HSI5B_SOUTN/124N (io), E28 BK5_IO38, HSI5B_SOUTP/124P (io), E29 BK5_IO32, VREF5/121P (io), E30 BK5_IO28/119P (io), F28 BK5_IO33/121N (io), F29 BK5_IO29/119N (io), F30 BK5_IO24/117P (io), G27 BK5_IO31, HSI5A_SOUTN/120N (io), G28 BK5_IO30, HSI5A_SOUTP/120P (io), G29 BK5_IO25/117N (io), G30 BK5_IO19, HSI4B_SINN/114N (io), H27 BK5_IO27, HSI5A_SINN/118N (io), H28 BK5_IO26, HSI5A_SINP/118P (io), H29 BK5_IO23, HSI4B_SOUTN/116N (io), H30 BK5_IO18, HSI4B_SINP/114P (io), J28 BK5_IO20/115P (io), J29 BK5_IO22, HSI4B_SOUTP/116P (io), K27 BK5_IO21/115N (io), K28 BK5_IO17/113N (io), K29 BK5_IO15, HSI4A_SOUTN/112N (io), K30 BK5_IO14, HSI4A_SOUTP/112P (io), L27 BK5_IO16/113P (io), L28 BK5_IO13/111N (io), L29 BK5_IO11, HSI4A_SINN/110N (io), L30 BK5_IO10, HSI4A_SINP/110P (io), M28 BK5_IO12/111P (io), M29 BK5_IO9/109N (io), M30 BK5_IO8/109P (io), N27 BK5_IO7, PLL_FBK7/108N (io), N28 BK5_IO6, PLL-RST6/108P (io), N29 BK5_IO5/107N (io), N30 BK5_IO4, PLL_FBK6/107P (io), P28 BK5_IO3, PLL_RST7/106N (io), P29 BK5_IO2/106P (io), P30 BK5_IO1, CLK_OUT7/105N (io), R30 BK5_IO0, CLK_OUT6/105P (io), T27 BK4_IO41, CLK_OUT5/104N (io), U28 BK4_IO40, CLK_OUT4/104P (io), U29 BK4_IO39, SS_CLKOUT1N/103N (io), U30 BK4_IO38, SS_CLKOUT1P/103P (io), V27 BK4_IO34/101P (io), V28 BK4_IO35/101N (io), V29 BK4_IO36, PLL_FBK4/102P (io), V30 BK4_IO37, PLL_FBK5/102N (io), W28 BK4_IO30, SS_CLKIN1P/99P (io), W29 BK4_IO31, SS_CLKIN1N/99N (io), W30 BK4_IO33/100N (io), Y27 BK4_IO25/96N (io), Y28 BK4_IO26/97P (io), Y29 BK4_IO28/98P (io), Y30 BK4_IO32/100P (io)
part C pins: A28 PROGRAMb (in), A29 CFG0 (in), AG5 TOE (in), AJ3 TMS (in), AJ28 DXP (out), AK2 TCK (in), AK28 GSR (in), AK29 DXN (out), B3 TDI (in), B28 DONE (io), D5 TDO (out), R2 GCLK0/LVDS Pair0P (in), R3 GCLK1/LVDS Pair0N (in), R27 GCLK7/LVDS Pair3N (in), R28 GCLK6/LVDS Pair3P (in), T2 GCLK3/LVDS Pair1N (in), T3 GCLK2/LVDS Pair1P (in), T28 GCLK4/LVDS Pair2P (in), T29 GCLK5/LVDS Pair2N (in)
part D pins: A1 GND (power), A9 VCC (power), A22 VCC (power), A30 GND (power), AB1 VCC (power), AB4 VCCO1 (power), AB27 VCCO4 (power), AB30 VCC (power), AE4 VCCO1 (power), AE27 VCCO4 (power), AG4 VCC (power), AG6 VCCO2 (power), AG9 VCCO2 (power), AG12 VCCO2 (power), AG14 VCCO2 (power), AG17 VCCO3 (power), AG19 VCCO3 (power), AG22 VCCO3 (power), AG25 VCCO3 (power), AG27 VCC (power), AH3 GND (power), AH28 GND (power), AJ2 GND (power), AJ29 GND (power), AK1 GND (power), AK9 VCC (power), AK22 VCC (power), AK30 GND (power), B2 GND (power), B29 GND (power), C3 GND (power), C4 VCCJ (power), C28 GND (power), D4 VCC (power), D6 VCCO7 (power), D9 VCCO7 (power), D12 VCCO7 (power), D14 VCCO7 (power), D17 VCCO6 (power), D19 VCCO6 (power), D22 VCCO6 (power), D25 VCCO6 (power), D27 VCC (power), F4 VCCO0 (power), F27 VCCO5 (power), J1 VCC (power), J4 VCCO0 (power), J27 VCCO5 (power), J30 VCC (power), L11 VCC (power), L12 VCC (power), L13 VCCO7 (power), L14 VCCO7 (power), L15 VCC (power), L16 VCC (power), L17 VCCO6 (power), L18 VCCO6 (power), L19 VCC (power), L20 VCC (power), M4 VCCO0 (power), M11 VCC (power), M12 GND (power), M13 GND (power), M14 GND (power), M15 GND (power), M16 GND (power), M17 GND (power), M18 GND (power), M19 GND (power), M20 VCC (power), M27 VCCO5 (power), N11 VCCO0 (power), N12 GND (power), N13 GND (power), N14 GND (power), N15 GND (power), N16 GND (power), N17 GND (power), N18 GND (power), N19 GND (power), N20 VCCO5 (power), P4 VCCO0 (power), P11 VCCO0 (power), P12 GND (power), P13 GND (power), P14 GND (power), P15 GND (power), P16 GND (power), P17 GND (power), P18 GND (power), P19 GND (power), P20 VCCO5 (power), P27 VCCO5 (power), R4 VCCP0 (power), R11 VCC (power), R12 GND (power), R13 GND (power), R14 GND (power), R15 GND (power), R16 GND (power), R17 GND (power), R18 GND (power), R19 GND (power), R20 VCC (power), R29 GNDP1 (power), T4 GNDP0 (power), T11 VCC (power), T12 GND (power), T13 GND (power), T14 GND (power), T15 GND (power), T16 GND (power), T17 GND (power), T18 GND (power), T19 GND (power), T20 VCC (power), T30 VCCP1 (power), U4 VCCO1 (power), U11 VCCO1 (power), U12 GND (power), U13 GND (power), U14 GND (power), U15 GND (power), U16 GND (power), U17 GND (power), U18 GND (power), U19 GND (power), U20 VCCO4 (power), U27 VCCO4 (power), V11 VCCO1 (power), V12 GND (power), V13 GND (power), V14 GND (power), V15 GND (power), V16 GND (power), V17 GND (power), V18 GND (power), V19 GND (power), V20 VCCO4 (power), W4 VCCO1 (power), W11 VCC (power), W12 GND (power), W13 GND (power), W14 GND (power), W15 GND (power), W16 GND (power), W17 GND (power), W18 GND (power), W19 GND (power), W20 VCC (power), W27 VCCO4 (power), Y11 VCC (power), Y12 VCC (power), Y13 VCCO2 (power), Y14 VCCO2 (power), Y15 VCC (power), Y16 VCC (power), Y17 VCCO3 (power), Y18 VCCO3 (power), Y19 VCC (power), Y20 VCC (power)
part A text: BANK 3; BANK 0; BANK 2; BANK 1
part B text: BANK 7; BANK 4; BANK 6; BANK 5

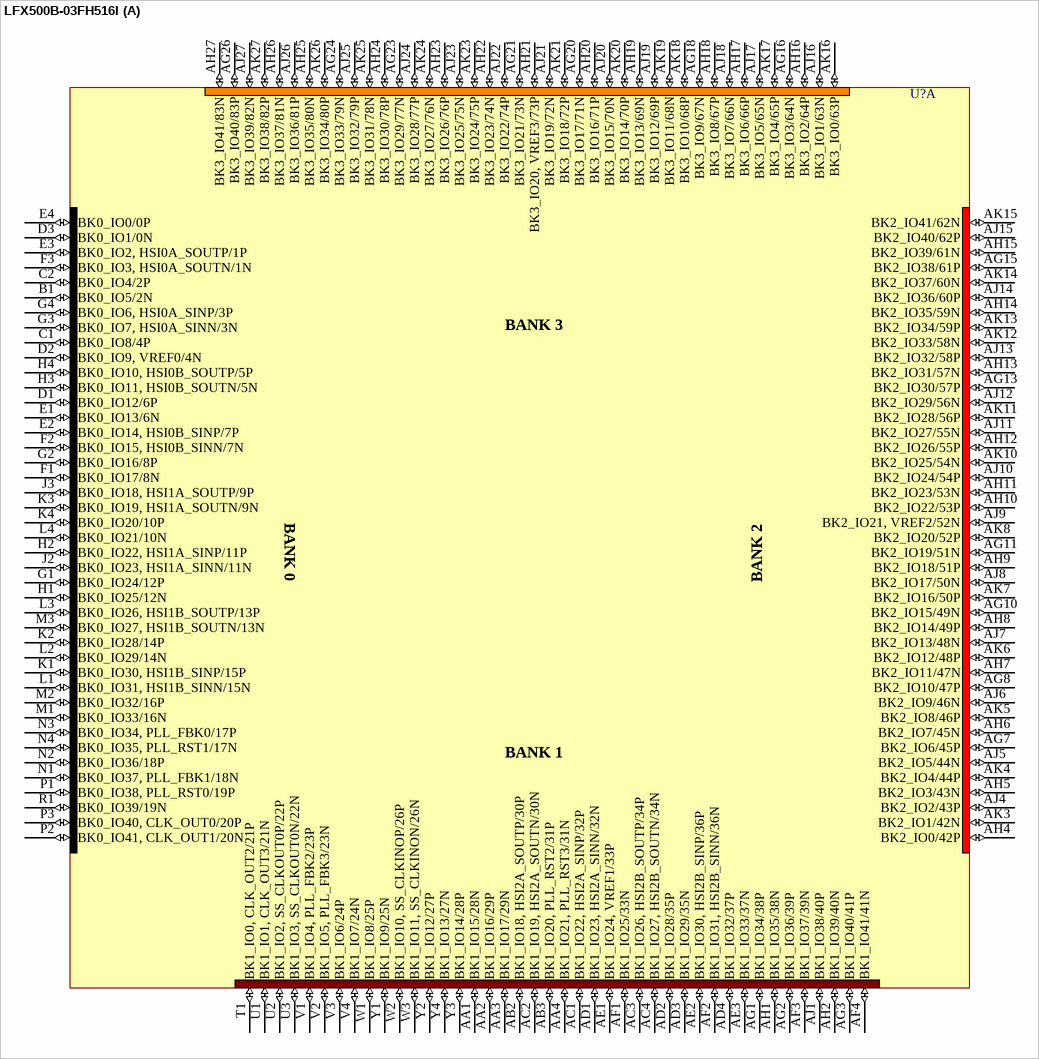
[diagram p149: symbol LFX500B-03FH516I]

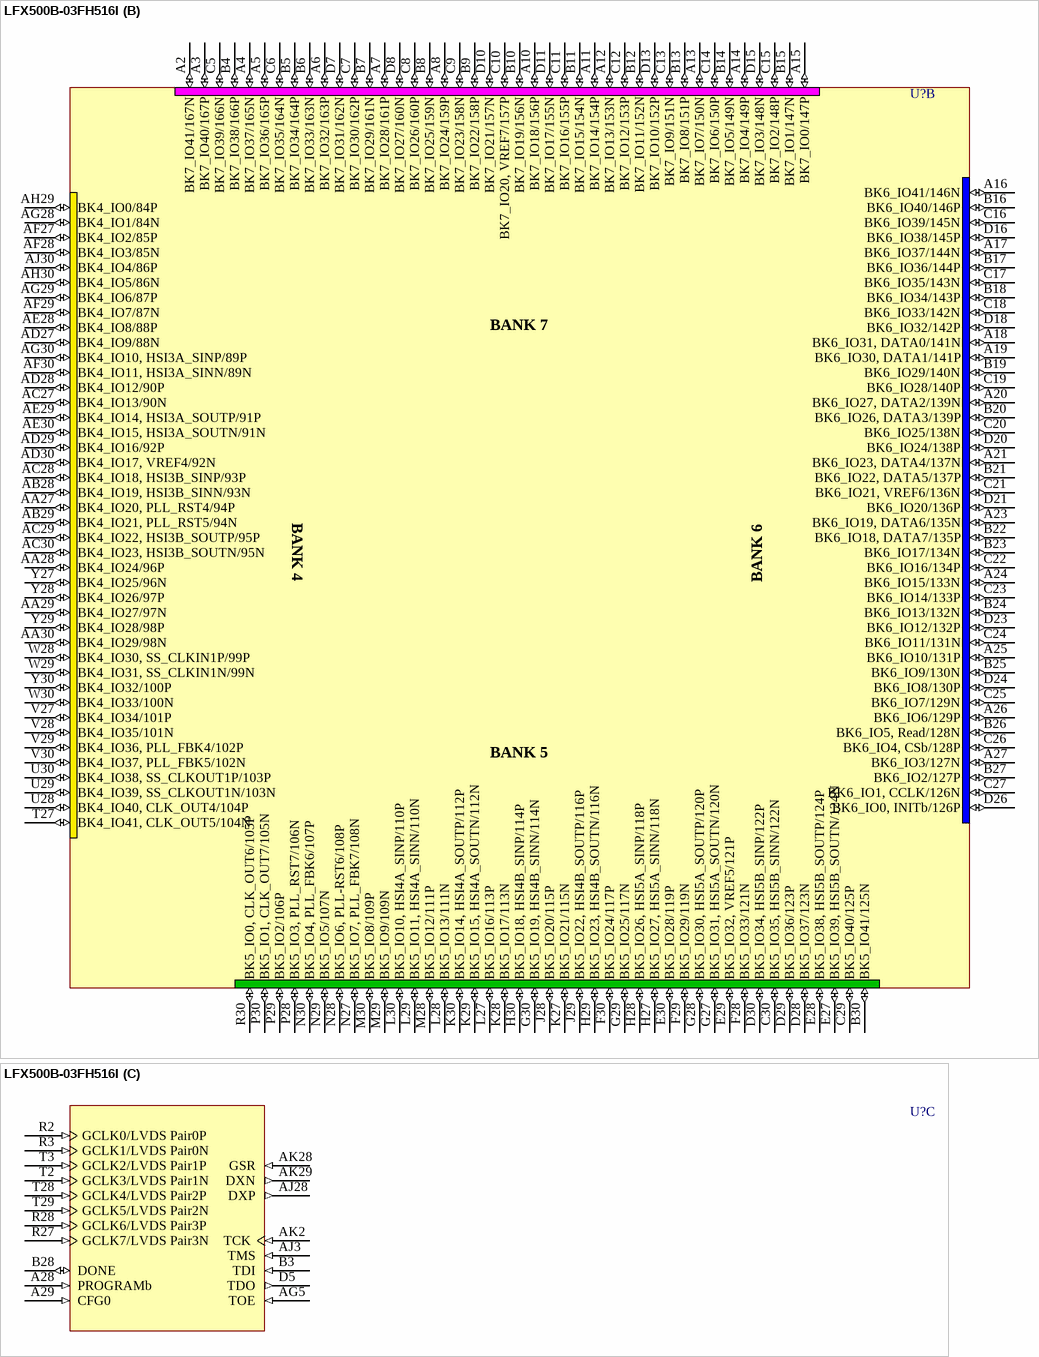
[diagram p150: symbol LFX500B-03FH516I]

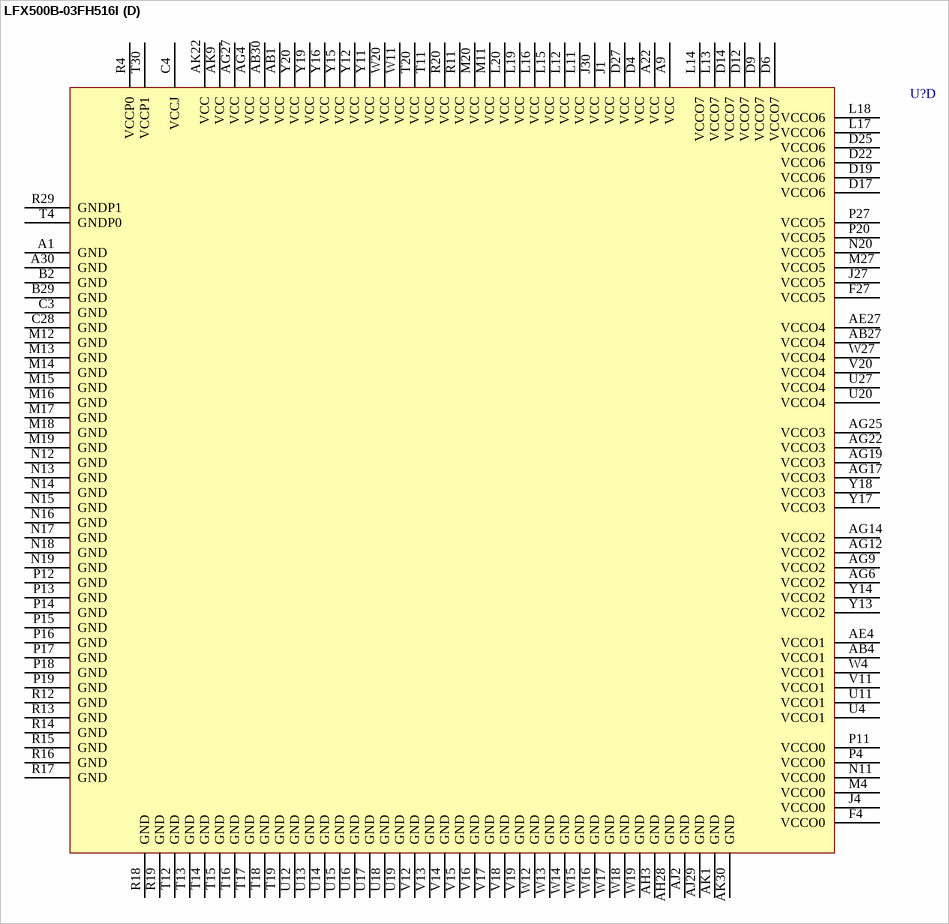
[diagram p151: symbol LFX500B-03FH516I]

## LFX500B-03FH516I
designator U?
LFX500 Non-Volatile Infinitely-Reconfigurable: 2.5/3.3V FPGA, 336 User I/Os, 516-Ball fpBGA, Speed Grade 3, Industrial Grade; Note: All GND pins must be electrically connected at the board level.; DoNotConnect: NC pins to any active signals, VCC or GND.; Published: 17-Dec-2003; LatestRevisionDate: 13-Apr-2006; LatestRevisionNote: IPC-7351 Footprint Added.; DatasheetVersion: xpga_07, Sep-2003; PackageVersion: pkg_32, Aug-2005; PackageReference: fpBGA516; Publisher: Altium Limited; PackageDescription: 516-Ball Fine Pitch Ball Grid Array (fpBGA516); ComponentLink1Description: Manufacturer Link; ComponentLink1URL: http://www.latticesemi.com/products/fpga/xpga/index.cfm; ComponentLink2Description: Datasheet; ComponentLink2URL: http://www.latticesemi.com/account/_download.cfm?AMID=5010; ComponentLink3Description: Lattice Login; ComponentLink3URL: http://www.latticesemi.com/account/login.cfm
footprint fpBGA516 (BGA, 516-Leads, Body 31x31mm, Pitch 1mm)
3D model LFX500-fpBGA516 (516-Ball Fine Pitch Ball Grid Array (fpBGA516))
part A pins: AA1 BK1_IO15/28N (io), AA2 BK1_IO16/29P (io), AA3 BK1_IO17/29N (io), AA4 BK1_IO21, PLL_RST3/31N (io), AB2 BK1_IO18, HSI2A_SOUTP/30P (io), AB3 BK1_IO20, PLL_RST2/31P (io), AC1 BK1_IO22, HSI2A_SINP/32P (io), AC2 BK1_IO19, HSI2A_SOUTN/30N (io), AC3 BK1_IO26, HSI2B_SOUTP/34P (io), AC4 BK1_IO27, HSI2B_SOUTN/34N (io), AD1 BK1_IO23, HSI2A_SINN/32N (io), AD2 BK1_IO28/35P (io), AD3 BK1_IO29/35N (io), AD4 BK1_IO32/37P (io), AE1 BK1_IO24, VREF1/33P (io), AE2 BK1_IO30, HSI2B_SINP/36P (io), AE3 BK1_IO33/37N (io), AF1 BK1_IO25/33N (io), AF2 BK1_IO31, HSI2B_SINN/36N (io), AF3 BK1_IO37/39N (io), AF4 BK1_IO41/41N (io), AG1 BK1_IO34/38P (io), AG2 BK1_IO36/39P (io), AG3 BK1_IO40/41P (io), AG7 BK2_IO6/45P (io), AG8 BK2_IO10/47P (io), AG10 BK2_IO15/49N (io), AG11 BK2_IO19/51N (io), AG13 BK2_IO30/57P (io), AG15 BK2_IO38/61P (io), AG16 BK3_IO3/64N (io), AG18 BK3_IO9/67N (io), AG20 BK3_IO17/71N (io), AG21 BK3_IO21/73N (io), AG23 BK3_IO29/77N (io), AG24 BK3_IO33/79N (io), AG26 BK3_IO40/83P (io), AH1 BK1_IO35/38N (io), AH2 BK1_IO39/40N (io), AH4 BK2_IO0/42P (io), AH5 BK2_IO3/43N (io), AH6 BK2_IO7/45N (io), AH7 BK2_IO11/47N (io), AH8 BK2_IO14/49P (io), AH9 BK2_IO18/51P (io), AH10 BK2_IO22/53P (io), AH11 BK2_IO23/53N (io), AH12 BK2_IO26/55P (io), AH13 BK2_IO31/57N (io), AH14 BK2_IO35/59N (io), AH15 BK2_IO39/61N (io), AH16 BK3_IO2/64P (io), AH17 BK3_IO6/66P (io), AH18 BK3_IO8/67P (io), AH19 BK3_IO13/69N (io), AH20 BK3_IO16/71P (io), AH21 BK3_IO20, VREF3/73P (io), AH22 BK3_IO23/74N (io), AH23 BK3_IO26/76P (io), AH24 BK3_IO30/78P (io), AH25 BK3_IO35/80N (io), AH26 BK3_IO37/81N (io), AH27 BK3_IO41/83N (io), AJ1 BK1_IO38/40P (io), AJ4 BK2_IO2/43P (io), AJ5 BK2_IO5/44N (io), AJ6 BK2_IO9/46N (io), AJ7 BK2_IO13/48N (io), AJ8 BK2_IO17/50N (io), AJ9 BK2_IO21, VREF2/52N (io), AJ10 BK2_IO24/54P (io), AJ11 BK2_IO27/55N (io), AJ12 BK2_IO29/56N (io), AJ13 BK2_IO32/58P (io), AJ14 BK2_IO36/60P (io), AJ15 BK2_IO40/62P (io), AJ16 BK3_IO1/63N (io), AJ17 BK3_IO5/65N (io), AJ18 BK3_IO7/66N (io), AJ19 BK3_IO12/69P (io), AJ20 BK3_IO15/70N (io), AJ21 BK3_IO19/72N (io), AJ22 BK3_IO22/74P (io), AJ23 BK3_IO25/75N (io), AJ24 BK3_IO28/77P (io), AJ25 BK3_IO32/79P (io), AJ26 BK3_IO36/81P (io), AJ27 BK3_IO39/82N (io), AK3 BK2_IO1/42N (io), AK4 BK2_IO4/44P (io), AK5 BK2_IO8/46P (io), AK6 BK2_IO12/48P (io), AK7 BK2_IO16/50P (io), AK8 BK2_IO20/52P (io), AK10 BK2_IO25/54N (io), AK11 BK2_IO28/56P (io), AK12 BK2_IO33/58N (io), AK13 BK2_IO34/59P (io), AK14 BK2_IO37/60N (io), AK15 BK2_IO41/62N (io), AK16 BK3_IO0/63P (io), AK17 BK3_IO4/65P (io), AK18 BK3_IO10/68P (io), AK19 BK3_IO11/68N (io), AK20 BK3_IO14/70P (io), AK21 BK3_IO18/72P (io), AK23 BK3_IO24/75P (io), AK24 BK3_IO27/76N (io), AK25 BK3_IO31/78N (io), AK26 BK3_IO34/80P (io), AK27 BK3_IO38/82P (io), B1 BK0_IO5/2N (io), C1 BK0_IO8/4P (io), C2 BK0_IO4/2P (io), D1 BK0_IO12/6P (io), D2 BK0_IO9, VREF0/4N (io), D3 BK0_IO1/0N (io), E1 BK0_IO13/6N (io), E2 BK0_IO14, HSI0B_SINP/7P (io), E3 BK0_IO2, HSI0A_SOUTP/1P (io), E4 BK0_IO0/0P (io), F1 BK0_IO17/8N (io), F2 BK0_IO15, HSI0B_SINN/7N (io), F3 BK0_IO3, HSI0A_SOUTN/1N (io), G1 BK0_IO24/12P (io), G2 BK0_IO16/8P (io), G3 BK0_IO7, HSI0A_SINN/3N (io), G4 BK0_IO6, HSI0A_SINP/3P (io), H1 BK0_IO25/12N (io), H2 BK0_IO22, HSI1A_SINP/11P (io), H3 BK0_IO11, HSI0B_SOUTN/5N (io), H4 BK0_IO10, HSI0B_SOUTP/5P (io), J2 BK0_IO23, HSI1A_SINN/11N (io), J3 BK0_IO18, HSI1A_SOUTP/9P (io), K1 BK0_IO30, HSI1B_SINP/15P (io), K2 BK0_IO28/14P (io), K3 BK0_IO19, HSI1A_SOUTN/9N (io), K4 BK0_IO20/10P (io), L1 BK0_IO31, HSI1B_SINN/15N (io), L2 BK0_IO29/14N (io), L3 BK0_IO26, HSI1B_SOUTP/13P (io), L4 BK0_IO21/10N (io), M1 BK0_IO33/16N (io), M2 BK0_IO32/16P (io), M3 BK0_IO27, HSI1B_SOUTN/13N (io), N1 BK0_IO37, PLL_FBK1/18N (io), N2 BK0_IO36/18P (io), N3 BK0_IO34, PLL_FBK0/17P (io), N4 BK0_IO35, PLL_RST1/17N (io), P1 BK0_IO38, PLL_RST0/19P (io), P2 BK0_IO41, CLK_OUT1/20N (io), P3 BK0_IO40, CLK_OUT0/20P (io), R1 BK0_IO39/19N (io), T1 BK1_IO0, CLK_OUT2/21P (io), U1 BK1_IO1, CLK_OUT3/21N (io), U2 BK1_IO2, SS_CLKOUT0P/22P (io), U3 BK1_IO3, SS_CLKOUT0N/22N (io), V1 BK1_IO4, PLL_FBK2/23P (io), V2 BK1_IO5, PLL_FBK3/23N (io), V3 BK1_IO6/24P (io), V4 BK1_IO7/24N (io), W1 BK1_IO8/25P (io), W2 BK1_IO10, SS_CLKINOP/26P (io), W3 BK1_IO11, SS_CLKINON/26N (io), Y1 BK1_IO9/25N (io), Y2 BK1_IO12/27P (io), Y3 BK1_IO14/28P (io), Y4 BK1_IO13/27N (io)
part B pins: A2 BK7_IO41/167N (io), A3 BK7_IO40/167P (io), A4 BK7_IO37/165N (io), A5 BK7_IO36/165P (io), A6 BK7_IO32/163P (io), A7 BK7_IO28/161P (io), A8 BK7_IO24/159P (io), A10 BK7_IO18/156P (io), A11 BK7_IO14/154P (io), A12 BK7_IO13/153N (io), A13 BK7_IO7/150N (io), A14 BK7_IO4/149P (io), A15 BK7_IO0/147P (io), A16 BK6_IO41/146N (io), A17 BK6_IO37/144N (io), A18 BK6_IO31, DATA0/141N (io), A19 BK6_IO30, DATA1/141P (io), A20 BK6_IO27, DATA2/139N (io), A21 BK6_IO23, DATA4/137N (io), A23 BK6_IO19, DATA6/135N (io), A24 BK6_IO15/133N (io), A25 BK6_IO10/131P (io), A26 BK6_IO6/129P (io), A27 BK6_IO3/127N (io), AA27 BK4_IO20, PLL_RST4/94P (io), AA28 BK4_IO24/96P (io), AA29 BK4_IO27/97N (io), AA30 BK4_IO29/98N (io), AB28 BK4_IO19, HSI3B_SINN/93N (io), AB29 BK4_IO21, PLL_RST5/94N (io), AC27 BK4_IO13/90N (io), AC28 BK4_IO18, HSI3B_SINP/93P (io), AC29 BK4_IO22, HSI3B_SOUTP/95P (io), AC30 BK4_IO23, HSI3B_SOUTN/95N (io), AD27 BK4_IO9/88N (io), AD28 BK4_IO12/90P (io), AD29 BK4_IO16/92P (io), AD30 BK4_IO17, VREF4/92N (io), AE28 BK4_IO8/88P (io), AE29 BK4_IO14, HSI3A_SOUTP/91P (io), AE30 BK4_IO15, HSI3A_SOUTN/91N (io), AF27 BK4_IO2/85P (io), AF28 BK4_IO3/85N (io), AF29 BK4_IO7/87N (io), AF30 BK4_IO11, HSI3A_SINN/89N (io), AG28 BK4_IO1/84N (io), AG29 BK4_IO6/87P (io), AG30 BK4_IO10, HSI3A_SINP/89P (io), AH29 BK4_IO0/84P (io), AH30 BK4_IO5/86N (io), AJ30 BK4_IO4/86P (io), B4 BK7_IO38/166P (io), B5 BK7_IO34/164P (io), B6 BK7_IO33/163N (io), B7 BK7_IO29/161N (io), B8 BK7_IO25/159N (io), B9 BK7_IO22/158P (io), B10 BK7_IO19/156N (io), B11 BK7_IO15/154N (io), B12 BK7_IO11/152N (io), B13 BK7_IO8/151P (io), B14 BK7_IO5/149N (io), B15 BK7_IO1/147N (io), B16 BK6_IO40/146P (io), B17 BK6_IO36/144P (io), B18 BK6_IO34/143P (io), B19 BK6_IO29/140N (io), B20 BK6_IO26, DATA3/139P (io), B21 BK6_IO22, DATA5/137P (io), B22 BK6_IO18, DATA7/135P (io), B23 BK6_IO17/134N (io), B24 BK6_IO13/132N (io), B25 BK6_IO9/130N (io), B26 BK6_IO5, Read/128N (io), B27 BK6_IO2/127P (io), B30 BK5_IO41/125N (io), C5 BK7_IO39/166N (io), C6 BK7_IO35/164N (io), C7 BK7_IO30/162P (io), C8 BK7_IO26/160P (io), C9 BK7_IO23/158N (io), C10 BK7_IO20, VREF7/157P (io), C11 BK7_IO16/155P (io), C12 BK7_IO12/153P (io), C13 BK7_IO9/151N (io), C14 BK7_IO6/150P (io), C15 BK7_IO2/148P (io), C16 BK6_IO39/145N (io), C17 BK6_IO35/143N (io), C18 BK6_IO33/142N (io), C19 BK6_IO28/140P (io), C20 BK6_IO25/138N (io), C21 BK6_IO21, VREF6/136N (io), C22 BK6_IO16/134P (io), C23 BK6_IO14/133P (io), C24 BK6_IO11/131N (io), C25 BK6_IO7/129N (io), C26 BK6_IO4, CSb/128P (io), C27 BK6_IO1, CCLK/126N (io), C29 BK5_IO40/125P (io), C30 BK5_IO35, HSI5B_SINN/122N (io), D7 BK7_IO31/162N (io), D8 BK7_IO27/160N (io), D10 BK7_IO21/157N (io), D11 BK7_IO17/155N (io), D13 BK7_IO10/152P (io), D15 BK7_IO3/148N (io), D16 BK6_IO38/145P (io), D18 BK6_IO32/142P (io), D20 BK6_IO24/138P (io), D21 BK6_IO20/136P (io), D23 BK6_IO12/132P (io), D24 BK6_IO8/130P (io), D26 BK6_IO0, INITb/126P (io), D28 BK5_IO37/123N (io), D29 BK5_IO36/123P (io), D30 BK5_IO34, HSI5B_SINP/122P (io), E27 BK5_IO39, HSI5B_SOUTN/124N (io), E28 BK5_IO38, HSI5B_SOUTP/124P (io), E29 BK5_IO32, VREF5/121P (io), E30 BK5_IO28/119P (io), F28 BK5_IO33/121N (io), F29 BK5_IO29/119N (io), F30 BK5_IO24/117P (io), G27 BK5_IO31, HSI5A_SOUTN/120N (io), G28 BK5_IO30, HSI5A_SOUTP/120P (io), G29 BK5_IO25/117N (io), G30 BK5_IO19, HSI4B_SINN/114N (io), H27 BK5_IO27, HSI5A_SINN/118N (io), H28 BK5_IO26, HSI5A_SINP/118P (io), H29 BK5_IO23, HSI4B_SOUTN/116N (io), H30 BK5_IO18, HSI4B_SINP/114P (io), J28 BK5_IO20/115P (io), J29 BK5_IO22, HSI4B_SOUTP/116P (io), K27 BK5_IO21/115N (io), K28 BK5_IO17/113N (io), K29 BK5_IO15, HSI4A_SOUTN/112N (io), K30 BK5_IO14, HSI4A_SOUTP/112P (io), L27 BK5_IO16/113P (io), L28 BK5_IO13/111N (io), L29 BK5_IO11, HSI4A_SINN/110N (io), L30 BK5_IO10, HSI4A_SINP/110P (io), M28 BK5_IO12/111P (io), M29 BK5_IO9/109N (io), M30 BK5_IO8/109P (io), N27 BK5_IO7, PLL_FBK7/108N (io), N28 BK5_IO6, PLL-RST6/108P (io), N29 BK5_IO5/107N (io), N30 BK5_IO4, PLL_FBK6/107P (io), P28 BK5_IO3, PLL_RST7/106N (io), P29 BK5_IO2/106P (io), P30 BK5_IO1, CLK_OUT7/105N (io), R30 BK5_IO0, CLK_OUT6/105P (io), T27 BK4_IO41, CLK_OUT5/104N (io), U28 BK4_IO40, CLK_OUT4/104P (io), U29 BK4_IO39, SS_CLKOUT1N/103N (io), U30 BK4_IO38, SS_CLKOUT1P/103P (io), V27 BK4_IO34/101P (io), V28 BK4_IO35/101N (io), V29 BK4_IO36, PLL_FBK4/102P (io), V30 BK4_IO37, PLL_FBK5/102N (io), W28 BK4_IO30, SS_CLKIN1P/99P (io), W29 BK4_IO31, SS_CLKIN1N/99N (io), W30 BK4_IO33/100N (io), Y27 BK4_IO25/96N (io), Y28 BK4_IO26/97P (io), Y29 BK4_IO28/98P (io), Y30 BK4_IO32/100P (io)
part C pins: A28 PROGRAMb (in), A29 CFG0 (in), AG5 TOE (in), AJ3 TMS (in), AJ28 DXP (out), AK2 TCK (in), AK28 GSR (in), AK29 DXN (out), B3 TDI (in), B28 DONE (io), D5 TDO (out), R2 GCLK0/LVDS Pair0P (in), R3 GCLK1/LVDS Pair0N (in), R27 GCLK7/LVDS Pair3N (in), R28 GCLK6/LVDS Pair3P (in), T2 GCLK3/LVDS Pair1N (in), T3 GCLK2/LVDS Pair1P (in), T28 GCLK4/LVDS Pair2P (in), T29 GCLK5/LVDS Pair2N (in)
part D pins: A1 GND (power), A9 VCC (power), A22 VCC (power), A30 GND (power), AB1 VCC (power), AB4 VCCO1 (power), AB27 VCCO4 (power), AB30 VCC (power), AE4 VCCO1 (power), AE27 VCCO4 (power), AG4 VCC (power), AG6 VCCO2 (power), AG9 VCCO2 (power), AG12 VCCO2 (power), AG14 VCCO2 (power), AG17 VCCO3 (power), AG19 VCCO3 (power), AG22 VCCO3 (power), AG25 VCCO3 (power), AG27 VCC (power), AH3 GND (power), AH28 GND (power), AJ2 GND (power), AJ29 GND (power), AK1 GND (power), AK9 VCC (power), AK22 VCC (power), AK30 GND (power), B2 GND (power), B29 GND (power), C3 GND (power), C4 VCCJ (power), C28 GND (power), D4 VCC (power), D6 VCCO7 (power), D9 VCCO7 (power), D12 VCCO7 (power), D14 VCCO7 (power), D17 VCCO6 (power), D19 VCCO6 (power), D22 VCCO6 (power), D25 VCCO6 (power), D27 VCC (power), F4 VCCO0 (power), F27 VCCO5 (power), J1 VCC (power), J4 VCCO0 (power), J27 VCCO5 (power), J30 VCC (power), L11 VCC (power), L12 VCC (power), L13 VCCO7 (power), L14 VCCO7 (power), L15 VCC (power), L16 VCC (power), L17 VCCO6 (power), L18 VCCO6 (power), L19 VCC (power), L20 VCC (power), M4 VCCO0 (power), M11 VCC (power), M12 GND (power), M13 GND (power), M14 GND (power), M15 GND (power), M16 GND (power), M17 GND (power), M18 GND (power), M19 GND (power), M20 VCC (power), M27 VCCO5 (power), N11 VCCO0 (power), N12 GND (power), N13 GND (power), N14 GND (power), N15 GND (power), N16 GND (power), N17 GND (power), N18 GND (power), N19 GND (power), N20 VCCO5 (power), P4 VCCO0 (power), P11 VCCO0 (power), P12 GND (power), P13 GND (power), P14 GND (power), P15 GND (power), P16 GND (power), P17 GND (power), P18 GND (power), P19 GND (power), P20 VCCO5 (power), P27 VCCO5 (power), R4 VCCP0 (power), R11 VCC (power), R12 GND (power), R13 GND (power), R14 GND (power), R15 GND (power), R16 GND (power), R17 GND (power), R18 GND (power), R19 GND (power), R20 VCC (power), R29 GNDP1 (power), T4 GNDP0 (power), T11 VCC (power), T12 GND (power), T13 GND (power), T14 GND (power), T15 GND (power), T16 GND (power), T17 GND (power), T18 GND (power), T19 GND (power), T20 VCC (power), T30 VCCP1 (power), U4 VCCO1 (power), U11 VCCO1 (power), U12 GND (power), U13 GND (power), U14 GND (power), U15 GND (power), U16 GND (power), U17 GND (power), U18 GND (power), U19 GND (power), U20 VCCO4 (power), U27 VCCO4 (power), V11 VCCO1 (power), V12 GND (power), V13 GND (power), V14 GND (power), V15 GND (power), V16 GND (power), V17 GND (power), V18 GND (power), V19 GND (power), V20 VCCO4 (power), W4 VCCO1 (power), W11 VCC (power), W12 GND (power), W13 GND (power), W14 GND (power), W15 GND (power), W16 GND (power), W17 GND (power), W18 GND (power), W19 GND (power), W20 VCC (power), W27 VCCO4 (power), Y11 VCC (power), Y12 VCC (power), Y13 VCCO2 (power), Y14 VCCO2 (power), Y15 VCC (power), Y16 VCC (power), Y17 VCCO3 (power), Y18 VCCO3 (power), Y19 VCC (power), Y20 VCC (power)
part A text: BANK 3; BANK 0; BANK 2; BANK 1
part B text: BANK 7; BANK 4; BANK 6; BANK 5

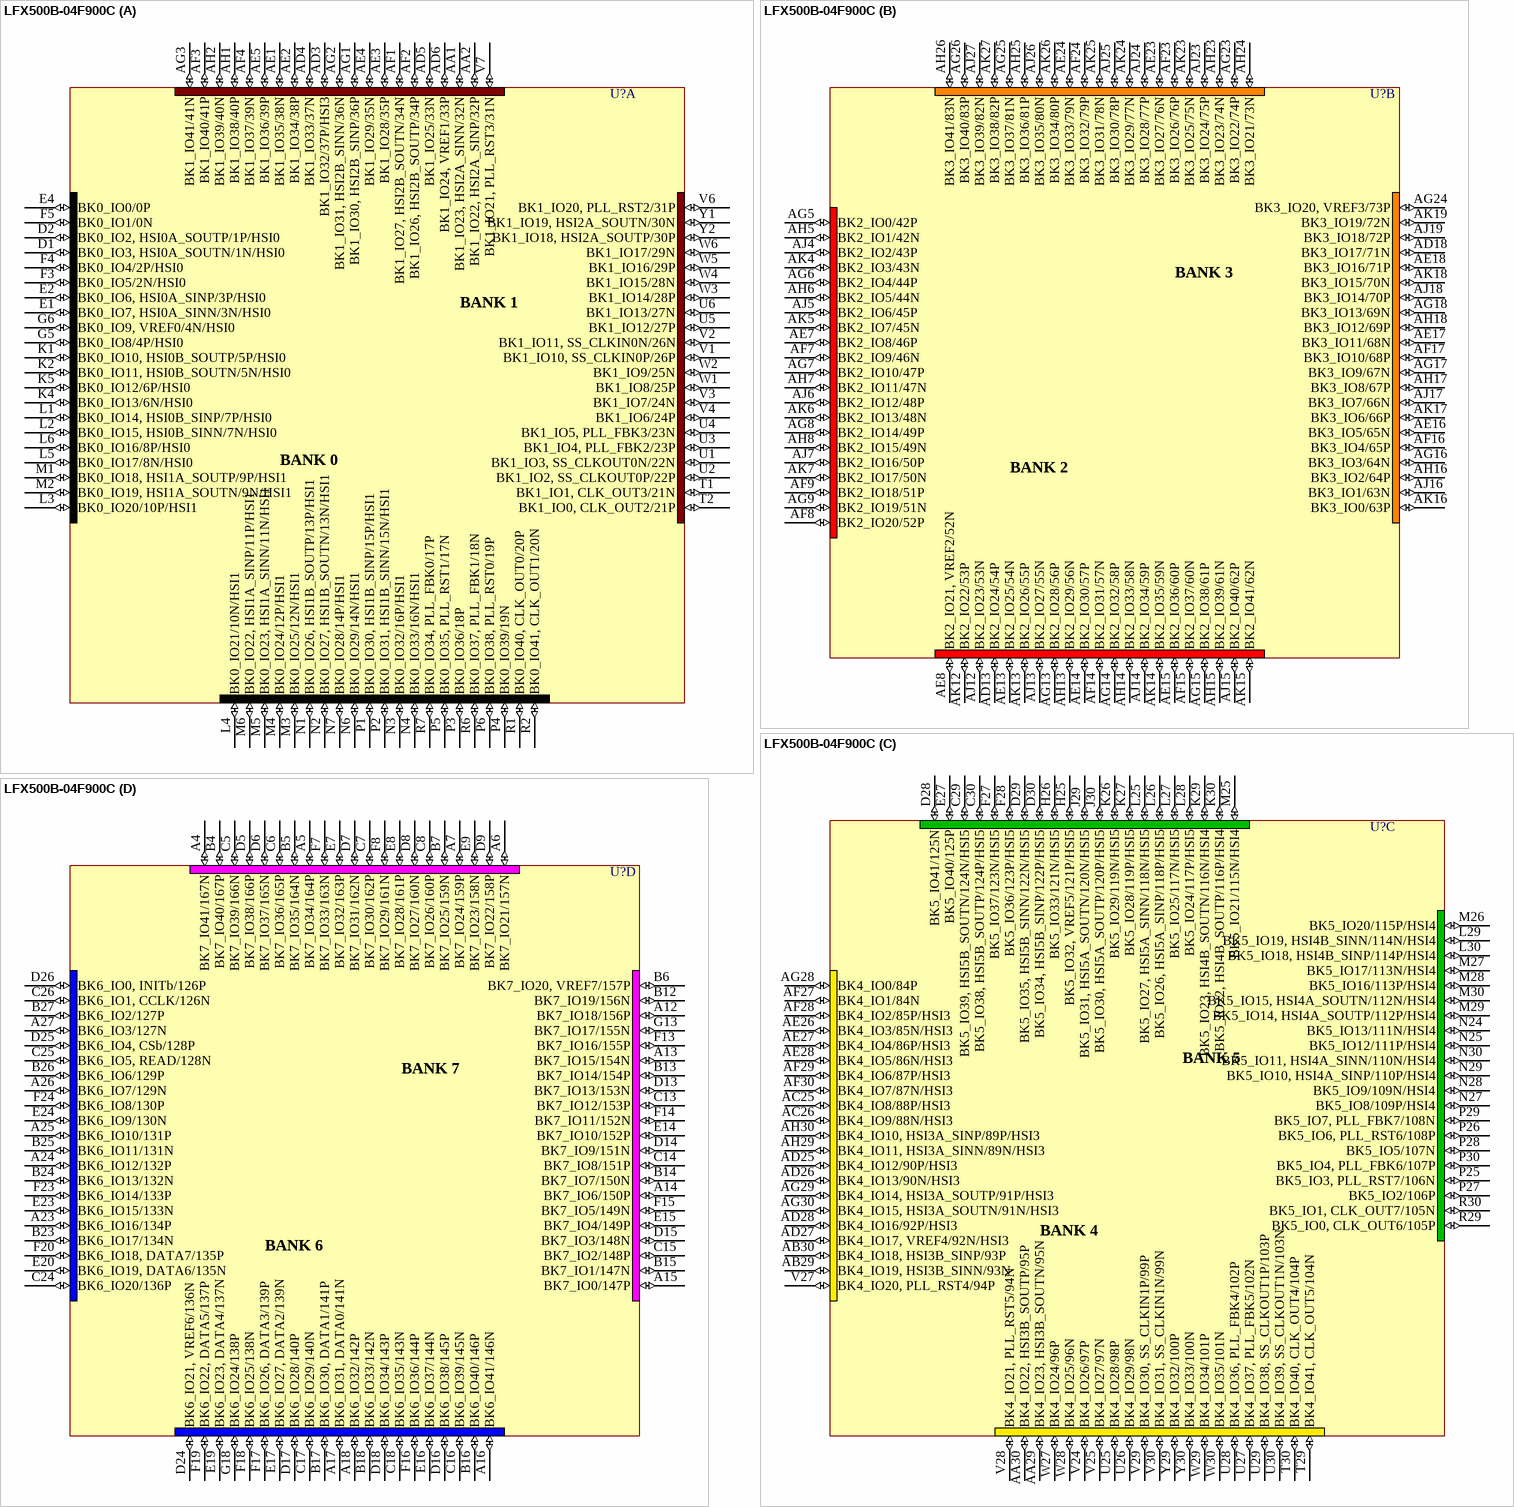
[diagram p152: symbol LFX500B-04F900C]

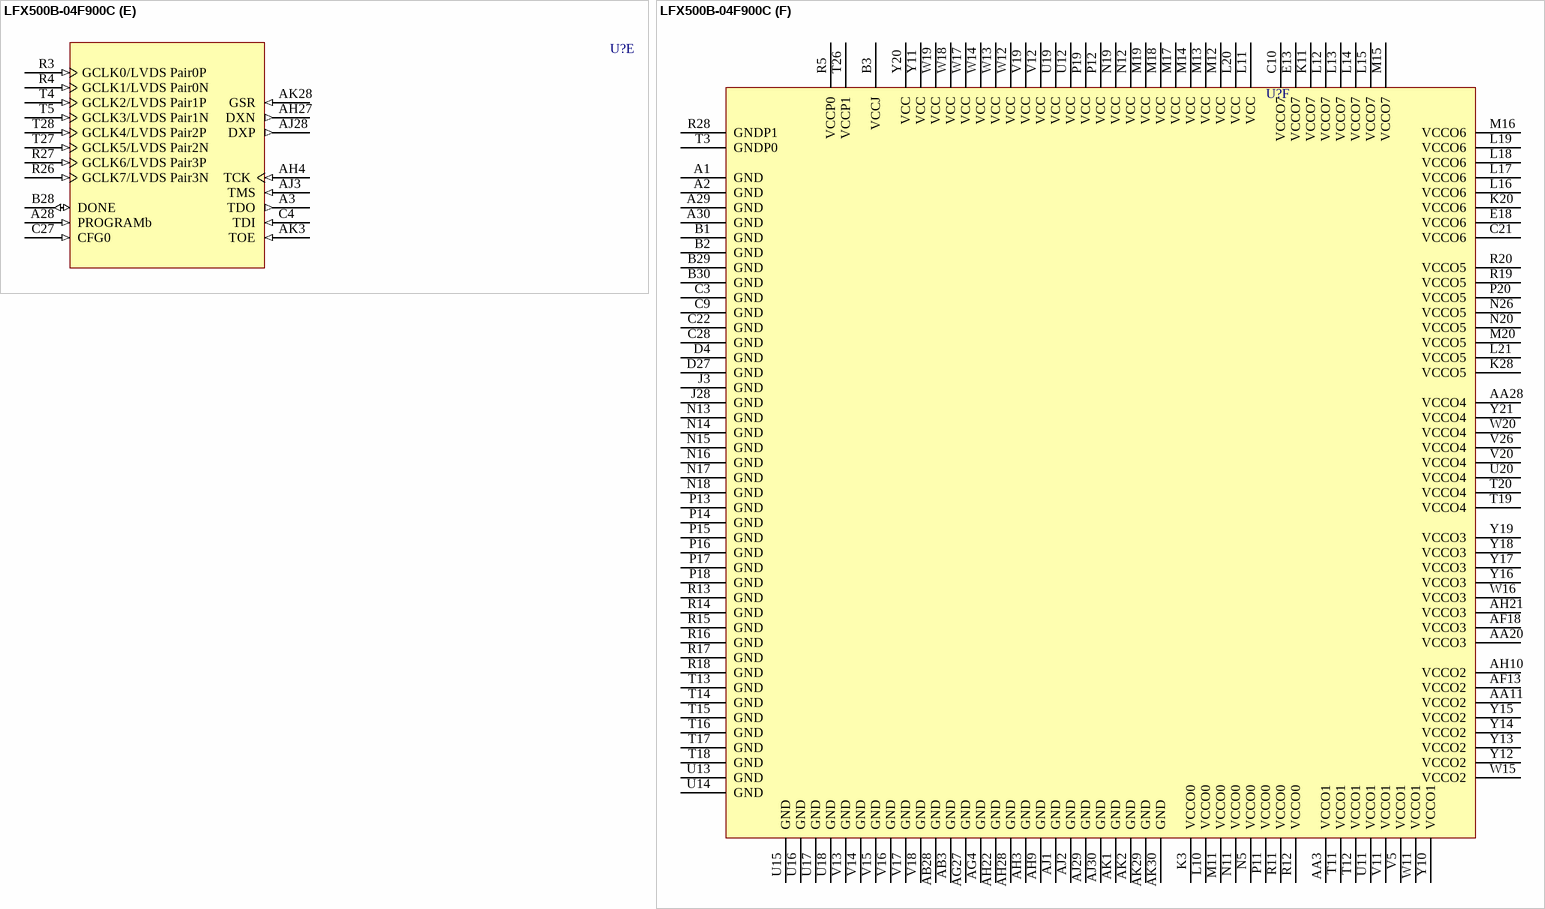
[diagram p153: symbol LFX500B-04F900C]

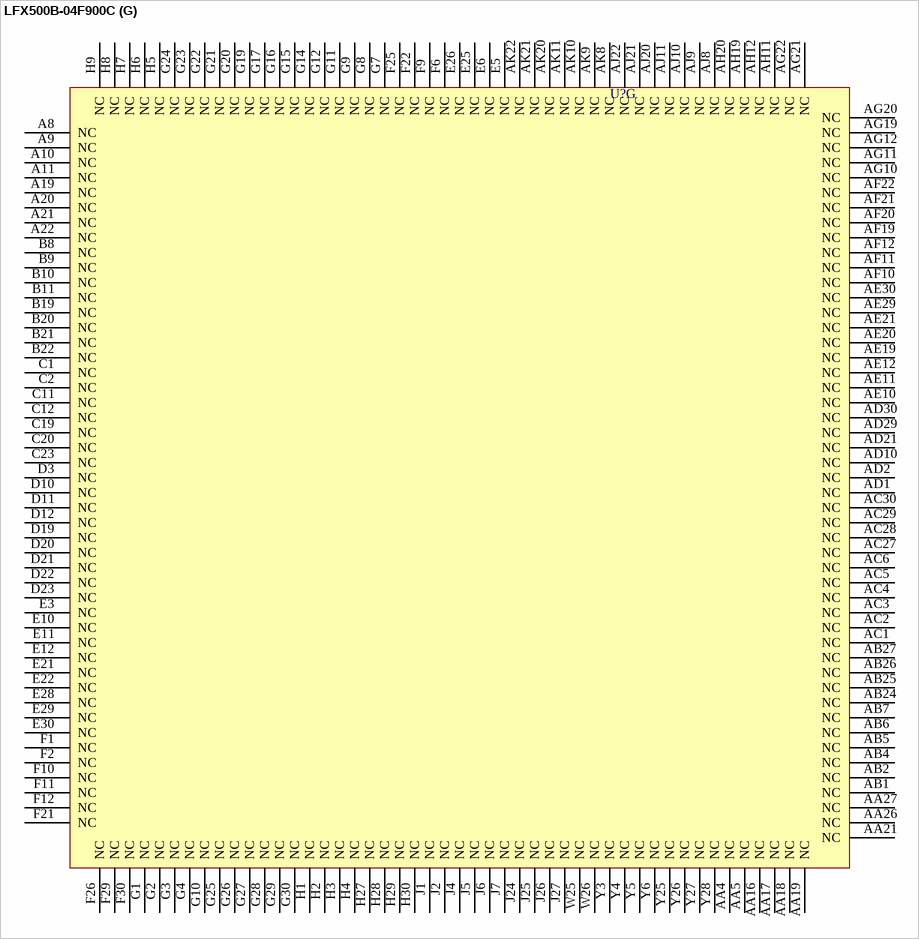
[diagram p154: symbol LFX500B-04F900C]

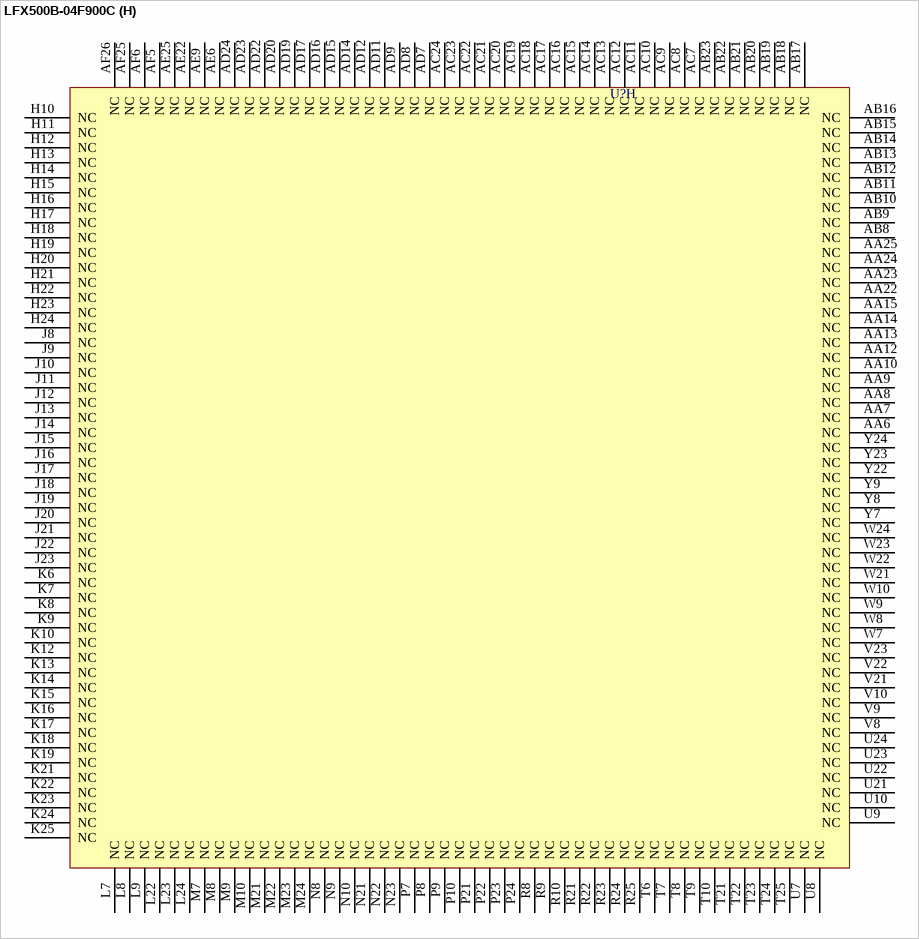
[diagram p155: symbol LFX500B-04F900C]